# Altium schematic symbol library Schematic-FragasLab.SchLib: 425 symbols (part 3 of 7)
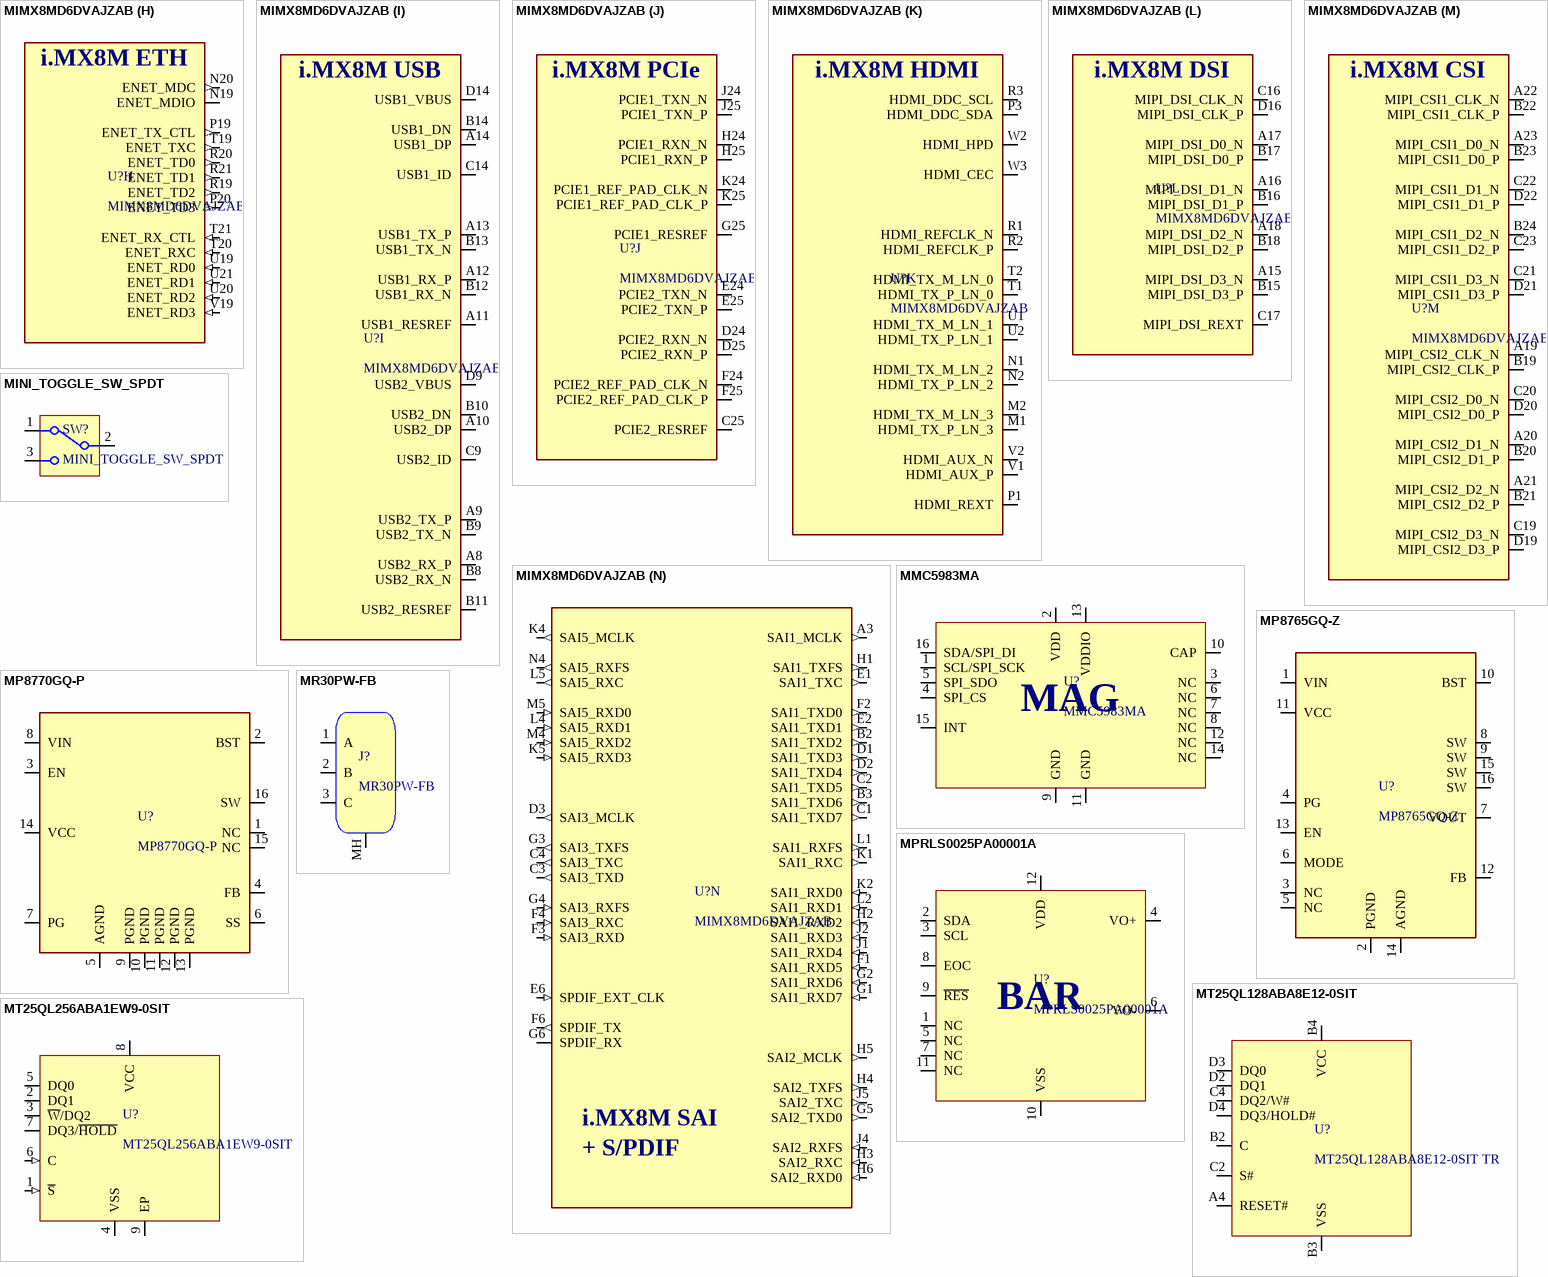
[diagram p44: symbols MIMX8MD6DVAJZAB to MT25QL256ABA1EW9-0SIT]

## MIMX8MD6DVAJZAB
designator U?
Microprocesor i.MX 8M Cortex-A53 1.5GHz Cortex-M4 FBGA-621; Manufacturer: NXP; Manufacturer Part Number: MIMX8MD6DVAJZAB; Distributor Link: https://eu.mouser.com/ProductDetail/NXP-Semiconductors/MIMX8MD6DVAJZAB?qs=byeeYqUIh0McEiqk4xmcPA%3D%3D
footprint BGA621-17X17-0MM65
part A pins: AA10 NVCC_DRAM_3, AA11 VDDA_DRAM, AA15 NVCC_DRAM_4, AB3 NVCC_DRAM_5, AB8 NVCC_DRAM_6, AB17 NVCC_DRAM_7, AB23 NVCC_DRAM_8, AC3 NVCC_DRAM_9, AC6 NVCC_DRAM_10, AC8 NVCC_DRAM_11, AC14 NVCC_DRAM_12, AC17 NVCC_DRAM_13, AC20 NVCC_DRAM_14, AC23 NVCC_DRAM_15, AD5 NVCC_DRAM_16, AD18 NVCC_DRAM_17, AD21 NVCC_DRAM_18, C11 USB2_VPTX, C12 USB1_VPTX, C18 MIPI_VDDHA_1, D8 NVCC_UART, D11 USB2_VP, D12 USB1_VP, D17 MIPI_VDDHA_2, D18 MIPI_VDDHA_3, E3 NVCC_SAI3, E11 USB2_DVDD, E12 USB1_DVDD, E15 MIPI_VDD_1, E17 MIPI_VDDA_1, E18 MIPI_VDDA_2, F5 NVCC_ECSPI, F11 USB2_VPH, F12 USB1_VPH, F15 MIPI_VDD_2, F17 MIPI_VDDA_3, F18 MIPI_VDDA_4, F19 MIPI_VDDPLL, F22 PCIE_VP_1, F23 PCIE_VPTX_1, G11 USB2_VDD33, G12 USB1_VDD33, G14 VDD_ARM_1, G15 VDD_ARM_2, G16 VDD_ARM_3, G22 PCIE_VP_2, G23 PCIE_VPTX_2, H7 NVCC_I2C, H14 VDD_ARM_4, H15 VDD_ARM_5, H16 VDD_ARM_6, H23 PCIE_VPH_1, J7 NVCC_SAI2, J9 VDD_GPU_1, J10 VDD_GPU_2, J15 VDD_ARM_7, J16 VDD_ARM_8, J23 PCIE_VPH_2, K3 NVCC_SAI1_1, K9 VDD_GPU_3, K10 VDD_GPU_4, K12 VDD_SOC_1, K14 VDDA_1P8_FPLL-ARM, K15 VDD_ARM_9, K16 VDD_ARM_10, L3 NVCC_SAI1_2, L9 VDD_GPU_5, L10 VDD_GPU_6, L12 VDD_SOC_2, L13 VDD_SOC_3, L15 VDD_ARM_11, L16 VDD_ARM_12, L18 NVCC_NAND_1, L23 NVCC_SD1_1, M3 NVCC_SAI5, M9 VDD_GPU_7, M10 VDD_GPU_8, M12 VDD_SOC_4, M13 VDD_SOC_5, M15 VDD_ARM_13, M16 VDD_ARM_14, M18 NVCC_NAND_2, M23 NVCC_SD1_2, N8 VDD_VPU_1, N9 VDD_VPU_2, N10 VDD_VPU_3, N11 VDDA_1P8_SPLL_VIDEO2, N13 VDD_SOC_6, N23 NVCC_SD2, P2 HDMI_AVDDIO, P9 VDD_VPU_4, P10 VDD_VPU_5, P12 VDD_SOC_7, P13 VDD_SOC_8, P15 VDD_SOC_9, P16 VDD_SOC_10, R5 NVCC_GPIO1_1, R6 NVCC_GPIO1_2, R8 VDD_SOC_11, R9 VDD_SOC_12, R10 VDD_SOC_13, R11 VDD_SOC_14, R12 VDD_SOC_15, R13 VDD_SOC_16, R14 VDD_SOC_17, R15 VDD_SOC_18, R16 VDD_SOC_19, R17 EFUSE_VQPS, R18 VDD_SNVS, T8 VDD_SOC_20, T15 VDDA_1P8_SPLL_DRAM, T16 VDDA_1P8_TSENSOR, T17 VDD_SOC_21, T18 NVCC_ENET, U3 HDMI_AVDDCORE_1, U4 HDMI_AVDDCORE_2, U10 VDD_DRAM_1, U11 VDD_DRAM_2, U12 VDD_DRAM_3, U13 VDD_DRAM_4, U14 VDD_DRAM_5, U17 VDDA_1P8_FPLL, U23 VDDA_1P8_LVDS, V3 HDMI_AVDDCLK, V9 VDD_DRAM_6, V10 VDD_DRAM_7, V11 VDD_DRAM_8, V12 VDD_DRAM_9, V13 VDD_DRAM_10, V14 VDD_DRAM_11, V15 VDD_DRAM_12, V18 VDDA_0P9, W4 NVCC_JTAG, W17 VDDA_1P8_SPLL, W18 NVCC_SNVS, W23 VDDA_1P8_XTAL_27M, W24 VDDA_1P8_XTAL_25M, Y6 VDD_DRAM_13, Y8 VDD_DRAM_14, Y10 VDD_DRAM_15, Y12 NVCC_DRAM_1, Y14 NVCC_DRAM_2, Y16 VDD_DRAM_16, Y18 VDD_DRAM_17, Y20 VDD_DRAM_18
part B pins: A2 VSS_1 (power), A24 VSS_2 (power), AA5 VSS_120 (power), AA16 VSS_121 (power), AA21 VSS_122 (power), AB2 VSS_123 (power), AB9 VSS_124 (power), AB11 VSS_125 (power), AB18 VSS_126 (power), AB24 VSS_127 (power), AC4 VSS_128 (power), AC19 VSS_129 (power), AC22 VSS_130 (power), AD1 VSS_131 (power), AD7 VSS_132 (power), AD9 VSS_133 (power), AD11 VSS_134 (power), AD13 VSS_135 (power), AD16 VSS_136 (power), AD25 VSS_137 (power), AE2 VSS_138 (power), AE5 VSS_139 (power), AE21 VSS_140 (power), AE24 VSS_141 (power), B1 VSS_3 (power), B25 VSS_4 (power), C8 VSS_5 (power), C10 VSS_6 (power), C13 VSS_7 (power), C15 VSS_8 (power), C24 VSS_9 (power), D10 VSS_10 (power), D13 VSS_11 (power), D15 VSS_12 (power), D23 VSS_13 (power), E4 VSS_14 (power), E10 VSS_15 (power), E13 VSS_16 (power), E14 VSS_17 (power), E16 VSS_18 (power), E19 VSS_19 (power), E20 VSS_20 (power), E21 VSS_21 (power), E22 VSS_22 (power), E23 VSS_23 (power), F10 VSS_24 (power), F13 VSS_25 (power), F14 VSS_26 (power), F16 VSS_27 (power), F20 VSS_28 (power), G9 VSS_29 (power), G10 VSS_30 (power), G13 VSS_31 (power), G17 VSS_32 (power), G18 VSS_33 (power), G24 VSS_34 (power), H8 VSS_35 (power), H9 VSS_36 (power), H10 VSS_37 (power), H11 VSS_38 (power), H12 VSS_39 (power), H13 VSS_40 (power), H17 VSS_41 (power), H18 VSS_42 (power), J3 VSS_43 (power), J8 VSS_44 (power), J11 VSS_45 (power), J12 VSS_46 (power), J13 VSS_47 (power), J14 VSS_48 (power), J17 VSS_49 (power), J18 VSS_50 (power), J19 VSS_51 (power), K8 VSS_52 (power), K11 VSS_53 (power), K13 VSSA_FPLL_ARM (power), K17 VSS_54 (power), K18 VSS_55 (power), K23 VSS_56 (power), L8 VSS_57 (power), L11 VSS_58 (power), L14 VSS_59 (power), L17 VSS_60 (power), M8 VSS_61 (power), M11 VSS_62 (power), M14 VSS_63 (power), M17 VSS_64 (power), N3 VSS_65 (power), N12 VSSA_SPLL_VIDEO2 (power), N14 VSS_66 (power), N15 VSS_67 (power), N16 VSS_68 (power), N17 VSS_69 (power), N18 VSS_70 (power), P6 VSS_71 (power), P8 VSS_72 (power), P11 VSS_73 (power), P14 VSS_74 (power), P17 VSS_75 (power), P18 VSS_76 (power), P23 VSS_77 (power), R7 VSS_78 (power), T3 VSS_79 (power), T4 VSS_80 (power), T9 VSS_81 (power), T10 VSS_82 (power), T11 VSS_83 (power), T12 VSS_84 (power), T13 VSS_85 (power), T14 VSSA_SPLL_DRAM (power), U8 VSS_86 (power), U9 VSS_87 (power), U15 VSS_88 (power), U16 VSSA_FPLL (power), U18 VSS_89 (power), V4 VSS_90 (power), V8 VSS_91 (power), V16 VSS_92 (power), V17 VSSA_SPLL (power), V23 VSSA_XTAL_25M (power), W1 VSS_93 (power), W7 VSS_94 (power), W8 VSS_95 (power), W9 VSS_96 (power), W10 VSS_97 (power), W11 VSS_98 (power), W12 VSS_99 (power), W13 VSS_100 (power), W14 VSS_101 (power), W15 VSS_102 (power), W16 VSS_103 (power), W22 VSSA_XTAL_27M (power), W25 VSS_104 (power), Y2 VSS_105 (power), Y3 VSS_106 (power), Y4 VSS_107 (power), Y5 VSS_108 (power), Y7 VSS_109 (power), Y9 VSS_110 (power), Y11 VSS_111 (power), Y13 VSS_112 (power), Y15 VSS_113 (power), Y17 VSS_114 (power), Y19 VSS_115 (power), Y21 VSS_116 (power), Y22 VSS_117 (power), Y23 VSS_118 (power), Y24 VSS_119 (power)
part C pins: AA1 DRAM_DQ22 (io), AA2 DRAM_DQ20 (io), AA3 DRAM_DQ26 (io), AA4 DRAM_DQ25 (io), AA6 DRAM_DQ27 (io), AA7 DRAM_DQ30 (io), AA8 DRAM_DQ28 (io), AA9 DRAM_DQ31 (io), AA12 DRAM_PAR (out), AA13 DRAM_ZN, AA14 DRAM_VREF, AA17 DRAM_DQ15 (io), AA18 DRAM_DQ12 (io), AA19 DRAM_DQ14 (io), AA20 DRAM_DQ11 (io), AA22 DRAM_DQ09 (io), AA23 DRAM_DQ10 (io), AA24 DRAM_DQ04 (io), AA25 DRAM_DQ06 (io), AB1 DRAM_DQ23 (io), AB4 DRAM_DQ24 (io), AB5 DRAM_DQS3_P (out), AB6 DRAM_DM3 (out), AB7 DRAM_DQ29 (io), AB10 DRAM_NRAS (out), AB12 DRAM_BA1 (out), AB13 DRAM_RESET_N (in), AB14 DRAM_MTEST, AB15 DRAM_A9 (out), AB16 DRAM_A4 (out), AB19 DRAM_DQ13 (io), AB20 DRAM_DM1 (out), AB21 DRAM_DQS1_P (out), AB22 DRAM_DQ08 (io), AB25 DRAM_DQ07 (io), AC1 DRAM_DQS2_N (out), AC2 DRAM_DQS2_P (out), AC5 DRAM_DQS3_N (out), AC7 DRAM_CA2B_A13 (out), AC9 DRAM_CS0B (out), AC10 DRAM_NWE (out), AC11 DRAM_NCS1 (out), AC12 DRAM_ODT0 (out), AC13 DRAM_MTEST1, AC15 DRAM_A3 (out), AC16 DRAM_CKE0A_CKE0 (out), AC18 DRAM_CS1A (out), AC21 DRAM_DQS1_N (out), AC24 DRAM_DQS0_P (out), AC25 DRAM_DQS0_N (out), AD2 DRAM_DQ17 (io), AD3 DRAM_DM2 (out), AD4 DRAM_DQ19 (io), AD6 DRAM_CA5B_A0 (out), AD8 DRAM_CS1B (out), AD10 DRAM_CKE0B_CK (out), AD12 DRAM_CKtB_A2 (out), AD14 DRAM_CKtA_BA2 (out), AD15 DRAM_NCKA (out), AD17 DRAM_CA0A_A12 (out), AD19 DRAM_CA4A_A6 (out), AD20 DRAM_CA2A_A7 (out), AD22 DRAM_DQ03 (io), AD23 DRAM_DM0 (out), AD24 DRAM_DQ01 (io), AE3 DRAM_DQ16 (io), AE4 DRAM_DQ18 (io), AE6 DRAM_CA4B_A10 (out), AE7 DRAM_CA3B_BA0 (out), AE8 DRAM_CA0B (out), AE9 DRAM_CA1B_NCAS (out), AE10 DRAM_CKE1B_NCK (out), AE11 DRAM_ODT1 (out), AE12 DRAM_CKcB_A1 (out), AE13 DRAM_A15 (out), AE14 DRAM_CK_c_A_A14 (out), AE15 DRAM_CKA (out), AE16 DRAM_CA1A_A11 (out), AE17 DRAM_CKE1A_CK1 (out), AE18 DRAM_CS0A_NCS0 (out), AE19 DRAM_CA5A_A5 (out), AE20 DRAM_CA3A_A8 (out), AE22 DRAM_DQ02 (io), AE23 DRAM_DQ00 (io), Y1 DRAM_DQ21 (io), Y25 DRAM_DQ05 (io)
part D pins: R23 CLK1_P (in), T5 JTAG_TCK, T22 CLK2_P (out), T23 CLK1_N (in), U5 JTAG_TDO, U6 JTAG_TRST_B, U7 JTAG_MOD, U22 CLK2_N (out), U24 XTALO_25M (out), U25 XTALI_25M (in), V5 JTAG_TMS, V6 BOOT_MODE1 (in), V7 TEST_MODE (in), V20 PMIC_ON_REQ (out), V21 PMIC_STBY_REQ (out), V22 RTC (in), V24 XTALO_27M (out), V25 XTALI_27M (in), W5 JTAG_TDI, W6 BOOT_MODE0 (in), W19 RTC_RESET_B (in), W20 POR_B (in), W21 ONOFF (in)
part E pins: A4 ECSPI1_MOSI (out), A5 ECSPI2_SS0 (out), A6 UART3_RXD (in), A7 UART1_TXD (out), B4 ECSPI1_MISO (in), B5 ECSPI2_MISO (in), B6 UART2_RXD (in), B7 UART3_TXD (out), C5 ECSPI2_SCLK (out), C6 UART4_RXD (in), C7 UART1_RXD (in), D4 ECSPI1_SS0 (out), D5 ECSPI1_SCLK (out), D6 UART2_TXD (out), D7 UART4_TXD (out), E5 ECSPI2_MOSI (out), E7 I2C1_SCL (io), E8 I2C1_SDA (io), E9 I2C3_SDA (io), F7 I2C2_SDA (io), F8 I2C4_SCL (io), F9 I2C4_SDA (io), G7 I2C2_SCL (io), G8 I2C3_SCL (io), J6 GPIO1_IO15 (io), K6 GPIO1_IO13 (io), K7 GPIO1_IO14 (io), L6 GPIO1_IO11 (io), L7 GPIO1_IO12 (io), M6 GPIO1_IO09 (io), M7 GPIO1_IO10 (io), N5 GPIO1_IO06 (io), N6 GPIO1_IO07 (io), N7 GPIO1_IO08 (io), P4 GPIO1_IO03 (io), P5 GPIO1_IO04 (io), P7 GPIO1_IO05 (io), R4 GPIO1_IO02 (io), T6 GPIO1_IO00 (io), T7 GPIO1_IO01 (io)
part F pins: L21 SD2_CD_B (out), L22 SD2_CLK (out), L24 SD1_CMD (out), L25 SD1_CLK (out), M21 SD2_WP (out), M22 SD2_CMD (out), M24 SD1_DATA1 (io), M25 SD1_DATA0 (io), N21 SD2_DATA1 (io), N22 SD2_DATA0 (io), N24 SD1_DATA4 (io), N25 SD1_DATA2 (io), P21 SD2_DATA3 (io), P22 SD2_DATA2 (io), P24 SD1_DATA5 (io), P25 SD1_DATA3 (io), R22 SD2_RESET_B (out), R24 SD1_RESET_B (out), R25 SD1_DATA6 (io), T24 SD1_STROBE (out), T25 SD1_DATA7 (io)
part G pins: F21 NAND_CE2_B (out), G19 NAND_ALE (out), G20 NAND_DATA00 (io), G21 NAND_CE1_B (out), H19 NAND_CE0_B (out), H20 NAND_CE3_B (out), H21 NAND_CLE (out), H22 NAND_DATA02 (io), J20 NAND_DATA01 (io), J21 NAND_DATA03 (io), J22 NAND_DATA05 (io), K19 NAND_RE_B (in), K20 NAND_READY_B (in), K21 NAND_WP_B (out), K22 NAND_WE_B (out), L19 NAND_DATA06 (io), L20 NAND_DATA04 (io), M19 NAND_DATA07 (io), M20 NAND_DQS (out)
part H pins: N19 ENET_MDIO (io), N20 ENET_MDC (out), P19 ENET_TX_CTL (out), P20 ENET_TD3 (out), R19 ENET_TD2 (out), R20 ENET_TD0 (out), R21 ENET_TD1 (out), T19 ENET_TXC (out), T20 ENET_RXC (in), T21 ENET_RX_CTL (in), U19 ENET_RD0 (in), U20 ENET_RD2 (in), U21 ENET_RD1 (in), V19 ENET_RD3 (in)
part I pins: A8 USB2_RX_P, A9 USB2_TX_P, A10 USB2_DP, A11 USB1_RESREF, A12 USB1_RX_P, A13 USB1_TX_P, A14 USB1_DP, B8 USB2_RX_N, B9 USB2_TX_N, B10 USB2_DN, B11 USB2_RESREF, B12 USB1_RX_N, B13 USB1_TX_N, B14 USB1_DN, C9 USB2_ID, C14 USB1_ID, D9 USB2_VBUS, D14 USB1_VBUS
part J pins: C25 PCIE2_RESREF, D24 PCIE2_RXN_N, D25 PCIE2_RXN_P, E24 PCIE2_TXN_N, E25 PCIE2_TXN_P, F24 PCIE2_REF_PAD_CLK_N, F25 PCIE2_REF_PAD_CLK_P, G25 PCIE1_RESREF, H24 PCIE1_RXN_N, H25 PCIE1_RXN_P, J24 PCIE1_TXN_N, J25 PCIE1_TXN_P, K24 PCIE1_REF_PAD_CLK_N, K25 PCIE1_REF_PAD_CLK_P
part K pins: M1 HDMI_TX_P_LN_3, M2 HDMI_TX_M_LN_3, N1 HDMI_TX_M_LN_2, N2 HDMI_TX_P_LN_2, P1 HDMI_REXT, P3 HDMI_DDC_SDA, R1 HDMI_REFCLK_N, R2 HDMI_REFCLK_P, R3 HDMI_DDC_SCL, T1 HDMI_TX_P_LN_0, T2 HDMI_TX_M_LN_0, U1 HDMI_TX_M_LN_1, U2 HDMI_TX_P_LN_1, V1 HDMI_AUX_P, V2 HDMI_AUX_N, W2 HDMI_HPD, W3 HDMI_CEC
part L pins: A15 MIPI_DSI_D3_N, A16 MIPI_DSI_D1_N, A17 MIPI_DSI_D0_N, A18 MIPI_DSI_D2_N, B15 MIPI_DSI_D3_P, B16 MIPI_DSI_D1_P, B17 MIPI_DSI_D0_P, B18 MIPI_DSI_D2_P, C16 MIPI_DSI_CLK_N, C17 MIPI_DSI_REXT, D16 MIPI_DSI_CLK_P
part M pins: A19 MIPI_CSI2_CLK_N, A20 MIPI_CSI2_D1_N, A21 MIPI_CSI2_D2_N, A22 MIPI_CSI1_CLK_N, A23 MIPI_CSI1_D0_N, B19 MIPI_CSI2_CLK_P, B20 MIPI_CSI2_D1_P, B21 MIPI_CSI2_D2_P, B22 MIPI_CSI1_CLK_P, B23 MIPI_CSI1_D0_P, B24 MIPI_CSI1_D2_N, C19 MIPI_CSI2_D3_N, C20 MIPI_CSI2_D0_N, C21 MIPI_CSI1_D3_N, C22 MIPI_CSI1_D1_N, C23 MIPI_CSI1_D2_P, D19 MIPI_CSI2_D3_P, D20 MIPI_CSI2_D0_P, D21 MIPI_CSI1_D3_P, D22 MIPI_CSI1_D1_P
part N pins: A3 SAI1_MCLK (out), B2 SAI1_TXD2 (out), B3 SAI1_TXD6 (out), C1 SAI1_TXD7 (out), C2 SAI1_TXD5 (out), C3 SAI3_TXD (out), C4 SAI3_TXC (out), D1 SAI1_TXD3 (out), D2 SAI1_TXD4 (out), D3 SAI3_MCLK (out), E1 SAI1_TXC (out), E2 SAI1_TXD1 (out), E6 SPDIF_EXT_CLK (in), F1 SAI1_RXD5 (in), F2 SAI1_TXD0 (out), F3 SAI3_RXD (in), F4 SAI3_RXC (in), F6 SPDIF_TX (out), G1 SAI1_RXD7 (in), G2 SAI1_RXD6 (in), G3 SAI3_TXFS (out), G4 SAI3_RXFS (in), G5 SAI2_TXD0 (out), G6 SPDIF_RX, H1 SAI1_TXFS (out), H2 SAI1_RXD2 (in), H3 SAI2_RXC (in), H4 SAI2_TXFS (out), H5 SAI2_MCLK (out), H6 SAI2_RXD0 (in), J1 SAI1_RXD4 (in), J2 SAI1_RXD3 (in), J4 SAI2_RXFS (in), J5 SAI2_TXC (out), K1 SAI1_RXC (out), K2 SAI1_RXD0 (in), K4 SAI5_MCLK (out), K5 SAI5_RXD3 (in), L1 SAI1_RXFS (out), L2 SAI1_RXD1 (in), L4 SAI5_RXD1 (in), L5 SAI5_RXC (out), M4 SAI5_RXD2 (in), M5 SAI5_RXD0 (in), N4 SAI5_RXFS (out)
part A text: i.MX8M PWR
part B text: i.MX8M GND
part C text: i.MX8M DRAM
part D text: i.MX8M CONFIG
part E text: i.MX8M GPIO
part F text: i.MX8M SD
part G text: i.MX8M NAND
part H text: i.MX8M ETH
part I text: i.MX8M USB
part J text: i.MX8M PCIe
part K text: i.MX8M HDMI
part L text: i.MX8M DSI
part M text: i.MX8M CSI
part N text: i.MX8M SAI; + S/PDIF

## MINI_TOGGLE_SW_SPDT
designator SW?
Mini Toggle Switch SPDT THT
footprint MINI_TOGGLE_SW_SPDT
pins: 1, 2 COM, 3

## MMC5983MA
designator U?
±8 Gauss, High Performance 3-axis Magnetic Sensor I2C/SPI; Manufacturer: MEMSIC; Manufacturer Part Number: MMC5983MA
footprint MMC5983MA-LGA
pins: 1 SCL/SPI_SCK, 2 VDD, 3 NC, 4 SPI_CS, 5 SPI_SDO, 6 NC, 7 NC, 8 NC, 9 GND, 10 CAP, 11 GND, 12 NC, 13 VDDIO, 14 NC, 15 INT, 16 SDA/SPI_DI
text: MAG

## MP8765GQ-Z
designator U?
24V, 6A 500kHz High Efficiency Synchronous Step-down Converter; Manufacturer: MPS; Manufacturer Part Number: MIC24054YJL-TR; Distributor Link: https://www.mouser.de/ProductDetail/Monolithic-Power-Systems-MPS/MP8765GQ-Z?qs=sGAEpiMZZMsMIqGZiACxIbB7TMDfpY7yaU%252B6KH2iNJKGRJEoJj7Lfg%3D%3D
footprint QFN16-3x3-MP8765GQ
pins: 1 VIN, 2 PGND, 3 NC, 4 PG, 5 NC, 6 MODE, 7 VOUT, 8 SW, 9 SW, 10 BST, 11 VCC, 12 FB, 13 EN, 14 AGND, 15 SW, 16 SW

## MP8770GQ-P
designator U?
17V, 8A, 700kHz, High-Efficiency, Synchronous, Step-Down Converter; Manufacturer: MPS; Manufacturer Part Number: MP8770GQ-P; Distributor Link: https://www.mouser.de/ProductDetail/Monolithic-Power-Systems-MPS/MP8770GQ-P?qs=sGAEpiMZZMsMIqGZiACxIY79W%2FZ1FL4F8MuKM7Lvm3Hqk43cfQYG9A%3D%3D
footprint MP8770GQ-P
pins: 1 NC, 2 BST, 3 EN, 4 FB, 5 AGND, 6 SS, 7 PG, 8 VIN, 9 PGND, 10 PGND, 11 PGND, 12 PGND, 13 PGND, 14 VCC, 15 NC, 16 SW

## MPRLS0025PA00001A
designator U?
Board Mount Absolute Pressure Sensor Honeywell I2C 0 to 25 psi; Manufacturer: Honeywell; Manufacturer Part Number: MPRLS0025PA00001A
footprint MPR-SMD-12
pins: 1 NC, 2 SDA, 3 SCL, 4 VO+, 5 NC, 6 VO-, 7 NC, 8 EOC, 9 ~{RES}, 10 VSS, 11 NC, 12 VDD
text: BAR

## MR30PW-FB
designator J?
MR30 Connector Female 3 Position THT PCB-Mount 15A; Manufacturer: AMASS; Manufacturer Part Number: MR30PW-FB
footprint MR30PW-FB
pins: 1 A, 2 B, 3 C, MH

## MT25QL128ABA8E12-0SIT
designator U?, comment MT25QL128ABA8E12-0SIT TR
NOR Flash QSPI 128 Mbit T-PBGA-24; Manufacturer: Micron Technology; Manufacturer Part Number: MT25QL128ABA8E12-0SIT TR
footprint T-PBGA-5x5-6x8-24
pins: A4 RESET#, B2 C, B3 VSS, B4 VCC, C2 S#, C4 DQ2/W#, D2 DQ1, D3 DQ0, D4 DQ3/HOLD#

## MT25QL256ABA1EW9-0SIT
designator U?
3V 256-BIT SERIAL FLASH MEMORY QUAD SPI WSON-8; Manufacturer: Micron; Manufacturer Part Number: MT25QL256ABA1EW9-0SIT; Distributor Link: https://www.lcsc.com/product-detail/NOR-FLASH_Micron-Tech-MT25QL256ABA1EW9-0SIT-TR_C2061007.html; LCSC: C2061007
footprint WSON-8-8X6 (8-Pad WSON 8x6-mm (Package Code E) (Winbond))
pins: 1 ~{S} (in), 2 DQ1 (io), 3 ~{W}/DQ2 (io), 4 VSS (power), 5 DQ0 (io), 6 C (in), 7 DQ3/~{HOLD} (io), 8 VCC (power), 9 EP (power)

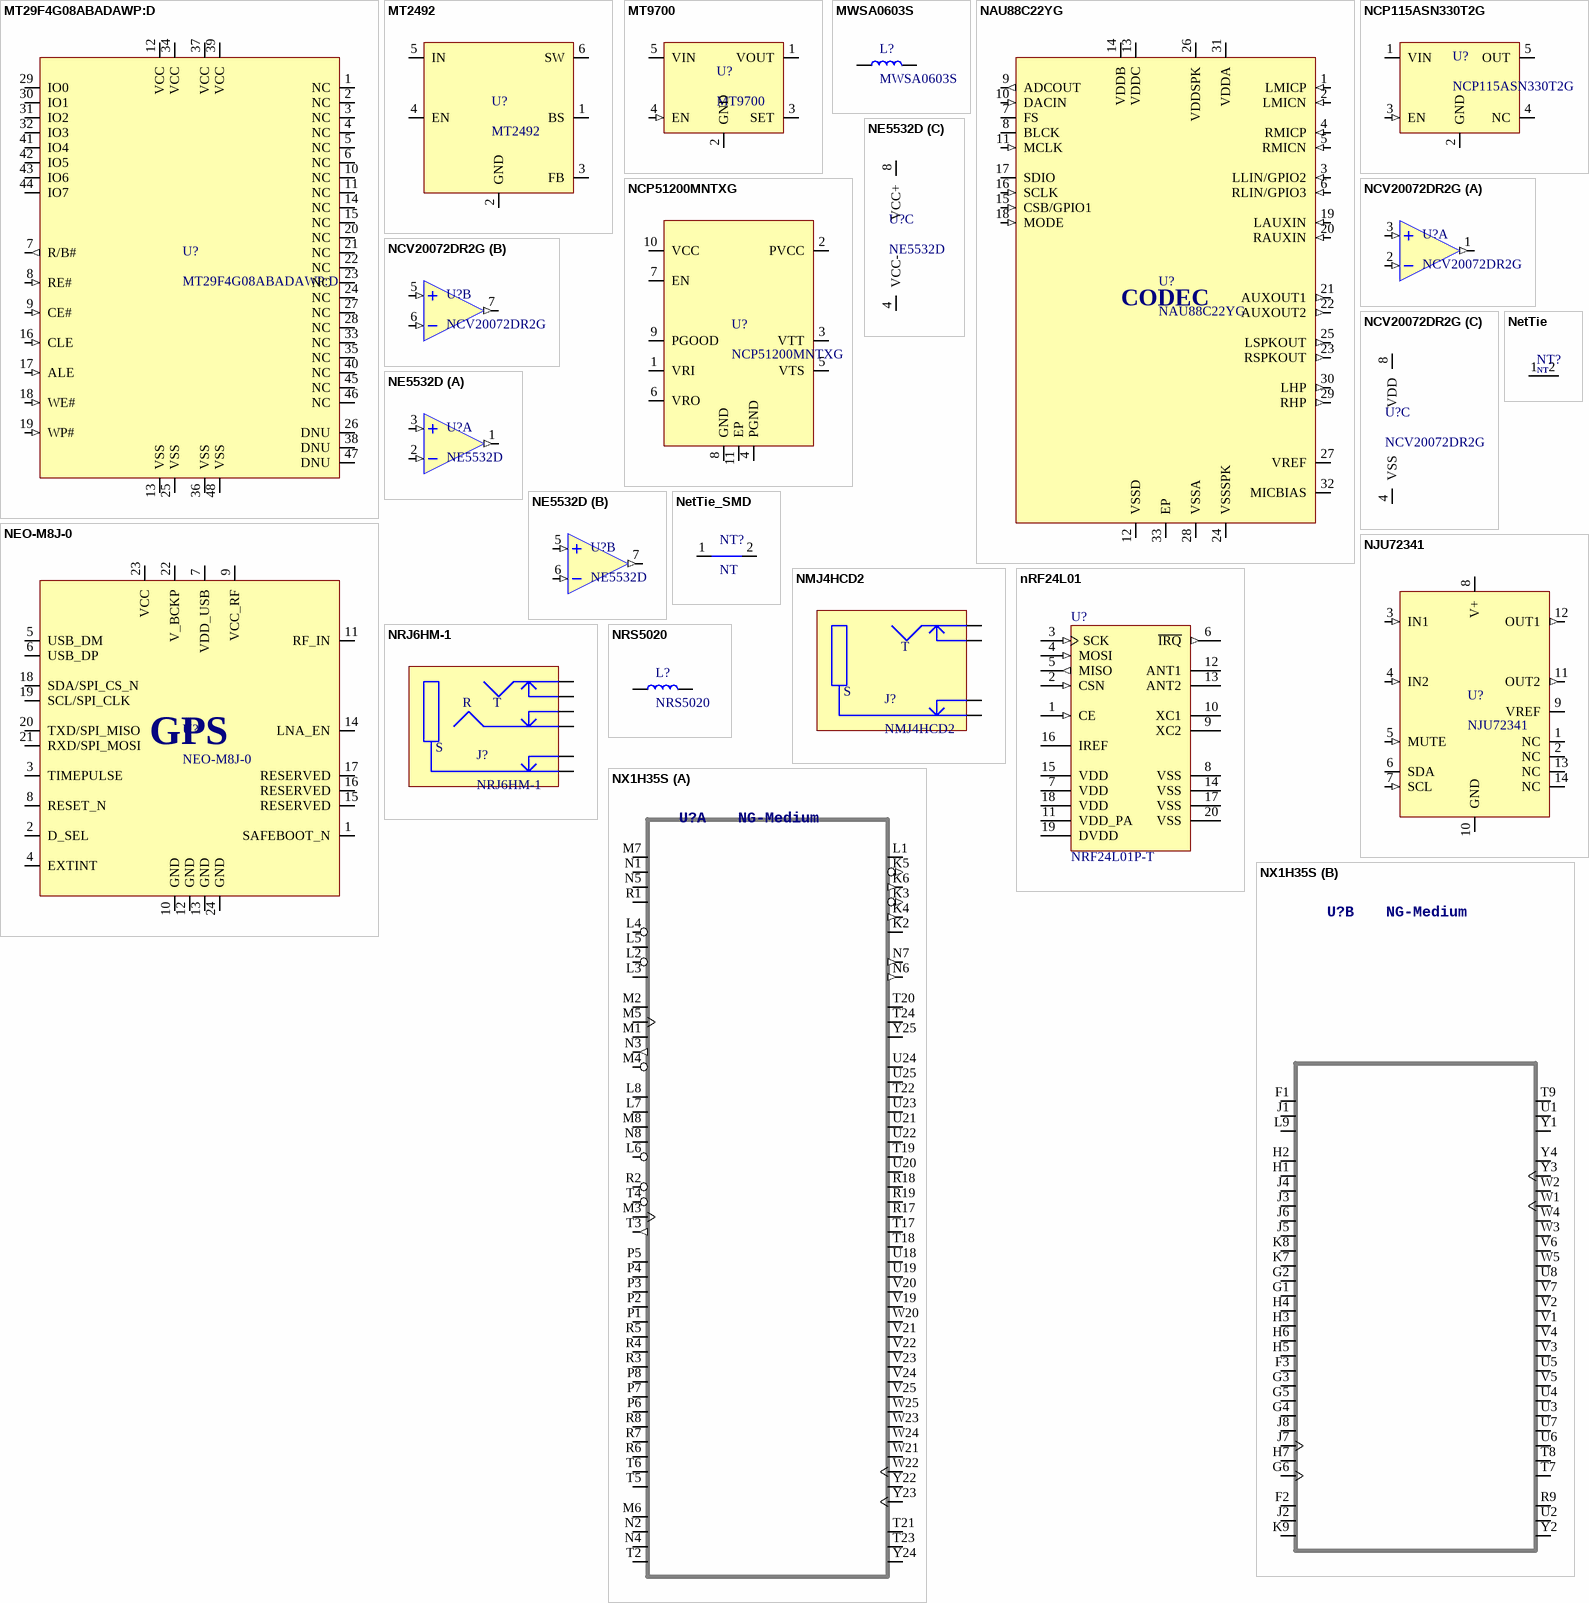
[diagram p15: symbols MT29F4G08ABADAWP:D to NX1H35S]

## MT29F4G08ABADAWP:D
designator U?
NAND FLASH Memory 4Gb x8 TSOP-48; Manufacturer: Micron; Manufacturer Part Number: MT29F4G08ABADAWP:D; LCSC: C78135
footprint TSOP-48
pins: 1 NC, 2 NC, 3 NC, 4 NC, 5 NC, 6 NC, 7 R/B# (out), 8 RE# (in), 9 CE# (in), 10 NC, 11 NC, 12 VCC (power), 13 VSS (power), 14 NC, 15 NC, 16 CLE (in), 17 ALE (in), 18 WE# (in), 19 WP# (in), 20 NC, 21 NC, 22 NC, 23 NC, 24 NC, 25 VSS (power), 26 DNU, 27 NC, 28 NC, 29 IO0 (io), 30 IO1 (io), 31 IO2 (io), 32 IO3 (io), 33 NC, 34 VCC (power), 35 NC, 36 VSS (power), 37 VCC (power), 38 DNU, 39 VCC (power), 40 NC, 41 IO4 (io), 42 IO5 (io), 43 IO6 (io), 44 IO7 (io), 45 NC, 46 NC, 47 DNU, 48 VSS (power)

## MT2492
designator U?
600KHz, 16V，2A Synchronous / Step-Down Converter; Manufacturer: Aerosemi; Manufacturer Part Number: MT2492
footprint SOT-23-6
pins: 1 BS, 2 GND, 3 FB, 4 EN, 5 IN, 6 SW

## MT9700
designator U?
Adjustable Current-Limited Power Distribution Switch; Manufacturer: Aerosemi; Manufacturer Part Number: MT9700
footprint SOT-23-5 (SOT23, 5-Leads, Body 2,90x2,80mm, Pitch 0,95mm, IPC Medium Density)
pins: 1 VOUT (power), 2 GND (power), 3 SET, 4 EN (in), 5 VIN (power)

## MWSA0603S
designator L?
Power Inductor SMD Sunlord MWSA0603S; Manufacturer Part Number: MWSA0603S-; Manufacturer: Sunlord
footprint MWSA0603S
pins: 1, 2

## NAU88C22YG
designator U?
24-bit Stereo Audio Codec with Speaker Driver; Manufacturer: Nuvoton Tech; Manufacturer Part Number: NAU88C22YG
footprint QFN32-5x5-0.5
pins: 1 LMICP (in), 2 LMICN (in), 3 LLIN/GPIO2 (in), 4 RMICP (in), 5 RMICN (in), 6 RLIN/GPIO3 (in), 7 FS (io), 8 BLCK (io), 9 ADCOUT (out), 10 DACIN (in), 11 MCLK (in), 12 VSSD (power), 13 VDDC (power), 14 VDDB (power), 15 CSB/GPIO1 (in), 16 SCLK (in), 17 SDIO (io), 18 MODE (in), 19 LAUXIN (in), 20 RAUXIN (in), 21 AUXOUT1 (out), 22 AUXOUT2 (out), 23 RSPKOUT (out), 24 VSSSPK (power), 25 LSPKOUT (out), 26 VDDSPK (power), 27 VREF (power), 28 VSSA (power), 29 RHP (out), 30 LHP (out), 31 VDDA (power), 32 MICBIAS (power), 33 EP (power)
text: CODEC

## NCP115ASN330T2G
designator U?
LDO Regulator - High PSRR 300 mA 3.3V TSOP-5; Manufacturer: ON Semiconductor; Manufacturer Part Number: NCP115ASN330T2G
footprint TSOT25 (SOT23, 5-Leads, Body 2.90x2.80mm, Pitch 0.95mm, IPC Medium Density)
pins: 1 VIN (power), 2 GND (power), 3 EN (in), 4 NC, 5 OUT (power)

## NCP51200MNTXG
designator U?
Linear Voltage Regulator / 3A for DDR1, DDR2, DDR3, / LPDDR3, DDR4 VTT / Termination; Manufacturer: onsemi; Manufacturer Part Number: NCP51200MNTXG
footprint DFNW10-3x3-0_5P
pins: 1 VRI, 2 PVCC, 3 VTT, 4 PGND, 5 VTS, 6 VRO, 7 EN, 8 GND, 9 PGOOD, 10 VCC, 11 EP

## NCV20072DR2G
designator U?
Dual Rail-to-Rail Output Operational Amplifiers; Manufacturer: onsemi; Manufacturer Part Number: NCV20072DR2G; Distributor Link: https://www.lcsc.com/product-detail/Operational-Amplifier_onsemi-NCV20072DR2G_C411206.html; LCSC: C411206
footprint SOIC-8 (SOIC, 8-Leads, Body 4.91x3.90mm, Pitch 1.27mm, IPC Medium Density)
part A pins: 1 1OUT (out), 2 1IN- (in), 3 1IN+ (in)
part B pins: 5 2IN+ (in), 6 2IN- (in), 7 2OUT (out)
part C pins: 4 VSS (power), 8 VDD (power)

## NE5532D
designator U?
Dual Low-Noise Operational Amplifiers; Manufacturer: Texas Instruments; Manufacturer Part Number: NE5532D
footprint SOIC-8 (SOIC, 8-Leads, Body 4.91x3.90mm, Pitch 1.27mm, IPC Medium Density)
part A pins: 1 1OUT (out), 2 1IN- (in), 3 1IN+ (in)
part B pins: 5 2IN+ (in), 6 2IN- (in), 7 2OUT (out)
part C pins: 4 VCC-, 8 VCC+

## NEO-M8J-0
designator U?
u-blox M8 concurrent GNSS module; Manufacturer: u-blox; Manufacturer Part Number: NEO-M8J-0
footprint NEO-M8
pins: 1 SAFEBOOT_N, 2 D_SEL, 3 TIMEPULSE, 4 EXTINT, 5 USB_DM, 6 USB_DP, 7 VDD_USB, 8 RESET_N, 9 VCC_RF, 10 GND, 11 RF_IN, 12 GND, 13 GND, 14 LNA_EN, 15 RESERVED, 16 RESERVED, 17 RESERVED, 18 SDA/SPI_CS_N, 19 SCL/SPI_CLK, 20 TXD/SPI_MISO, 21 RXD/SPI_MOSI, 22 V_BCKP, 23 VCC, 24 GND
text: GPS

## NetTie
designator NT?, comment NT  (value not drawn)  (net tie, no BOM)
Net Tie
footprint NETTIE
pins: 1, 2

## NetTie_SMD
designator NT?, comment NT  (net tie, no BOM)
Net Tie SMD
footprint NETTIE_SMD
pins: 1, 2

## NJU72341
designator U?
2-Channel Audio Volume Control I2C; Manufacturer: Nisshinbo; Manufacturer Part Number: NJU72341V-TE2
footprint SSOP-14
pins: 1 NC, 2 NC, 3 IN1 (in), 4 IN2 (in), 5 MUTE (in), 6 SDA (io), 7 SCL (in), 8 V+ (power), 9 VREF (power), 10 GND (power), 11 OUT2 (out), 12 OUT1 (out), 13 NC, 14 NC

## NMJ4HCD2
designator J?
1/4" Mono Jack, TS Switched; Manufacturer: Neutrik; Manufacturer Part Number: NMJ4HCD2
footprint NMJ4HCD2
pins: S, SN, T, TN

## nRF24L01
designator U?, comment NRF24L01P-T
Single Chip Transceiver, 2.4 GHz, 60 mW, 1.9 to 3.6 V, -40 to 85 degC, 20-Pin QFN, RoHS, Tray; Manufacturer: Nordic Semiconductor; Data Rate (Max): 2Mbps; Current - Transmitting: 7mA~11.3mA; Power - Output: 0dBm; Other Names: 1490-1019; Online Catalog: nRF24L01+; Current - Receiving: 12.6mA~13.5mA; For Use With: 1490-1002-ND-KITEVALUATIONNRF24L01P1568-1295-ND-SPARKFUNTRANSCEIVERBREAKOUT-1568-1296-ND-SPARKFUNTRANSCEIVERBREAKOUT-1471-1410-ND-DEVBOARDNRFSCLICKNRF24L01P-MODULE-PCB-ND-KITEVALNRF24L01+PCBANTENNANRF24L01P-MODULE-SMA-ND-KITEVALNRF24L01+SMACONNNRF24L01P-UPGRADE-ND-UPGRADE2PCB/1SMANRF24L01103990038-ND-DEVDUINOSENSORNODEV1.3103990053-ND-DEVDUINOSENSORNODEV2(ATMEGA103990074-ND-DEVDUINOSENSORNODE106990026-ND-ENERGYMONITORSHIELDV2113990088-ND-WIRELESSGATESHIELD113990095-ND-DEVDUINOSENSORNODEV3(ATMEGA106030001-ND-ENERGYMONITORSHIELD1597-1361-ND-DEVDUINOSENSORNODEV2.2(ATMEG105990030-ND-RGBWSTRIPWIRELESSSHIELDV1.0; Frequency: 2.4GHz; Design Resources: DevelopmentToolSelector; RF Family/Standard: GeneralISM>1GHZ; Serial Interfaces: SPI; Sensitivity: -94dBm; Voltage - Supply: 1.9V~3.6V; Modulation: GFSK; GPIO: -; Package Reference: QFN20; Memory Size: -; Category: RF/IFandRFID; Type: TxRxOnly; Standard Package: 490; Package / Case: 20-VFQFNExposedPad; Packaging: Tray; Series: -; Package Description: 20-Pin Quad Flat No-lead Package, Body 4 x 4 mm, Pitch 0.5 mm; Datasheet Version: Rev. 1.0, 09/2008; Protocol: -; Manufacturer URL: http://www.nordicsemi.com/eng/Products/; Operating Temperature: -40°C~85°C; Family: RFTransceiverICs; Datasheet URL: http://www.nordicsemi.com/eng/content/download/2726/34069/file/nRF24L01P_Product_Specification_1_0.pdf; Mounting Technology: SurfaceMount
footprint NRSC-QFN-20_L (QFN, 20-Leads, Body 4x4mm, Pitch 0.5mm, Thermal Pad 2.6x2.6mm, IPC High Density)
footprint NRSC-QFN-20_M (QFN, 20-Leads, Body 4x4mm, Pitch 0.5mm, Thermal Pad 2.6x2.6mm, IPC Low Density)
footprint NRSC-QFN-20_N (QFN, 20-Leads, Body 4x4mm, Pitch 0.5mm, Thermal Pad 2.6x2.6mm, IPC Medium Density)
pins: 1 CE (in) "Chip Enable Activates RX or TX mode", 2 CSN (in) "SPI Chip Select", 3 SCK (in) "SPI Clock", 4 MOSI (in) "SPI Slave Data Input", 5 MISO (out) "SPI Slave Data Output, with tri-state option", 6 ~{IRQ} (out) "Maskable interrupt pin. Active low", 7 VDD (power) "Power Supply (+1.9V - +3.6V DC)", 8 VSS (power) "Ground (0V)", 9 XC2 "Crystal Pin 2", 10 XC1 "Crystal Pin 1", 11 VDD_PA (power) "Power Supply Output (+1.8V) for the internal nRF24L01+ Power Amplifier. Must be connected to ANT1 and ANT2 as shown in Figure 32.", 12 ANT1 "Antenna interface 1", 13 ANT2 "Antenna interface 2", 14 VSS (power) "Ground (0V)", 15 VDD (power) "Power Supply (+1.9V - +3.6V DC)", 16 IREF "Reference current. Connect a 22 kohm resistor to ground. See Figure 32.", 17 VSS (power) "Ground (0V)", 18 VDD (power) "Power Supply (+1.9V - +3.6V DC)", 19 DVDD (power) "Internal digital supply output for de-coupling purposes. See Figure 32.", 20 VSS (power) "Ground (0V)"

## NRJ6HM-1
designator J?
1/4" Stereo Jack, TRS Switched; Manufacturer: Neutrik; Manufacturer Part Number: NRJ6HM-1
footprint NRJ6HM-1
pins: R, RN, S, SN, T, TN

## NRS5020
designator L?
NRS5020 SMD Power Inductor Taiyo Yuden; Manufacturer: Taiyo Yuden; Manufacturer Part Number: NRS5020
footprint NRS5020
pins: 1, 2

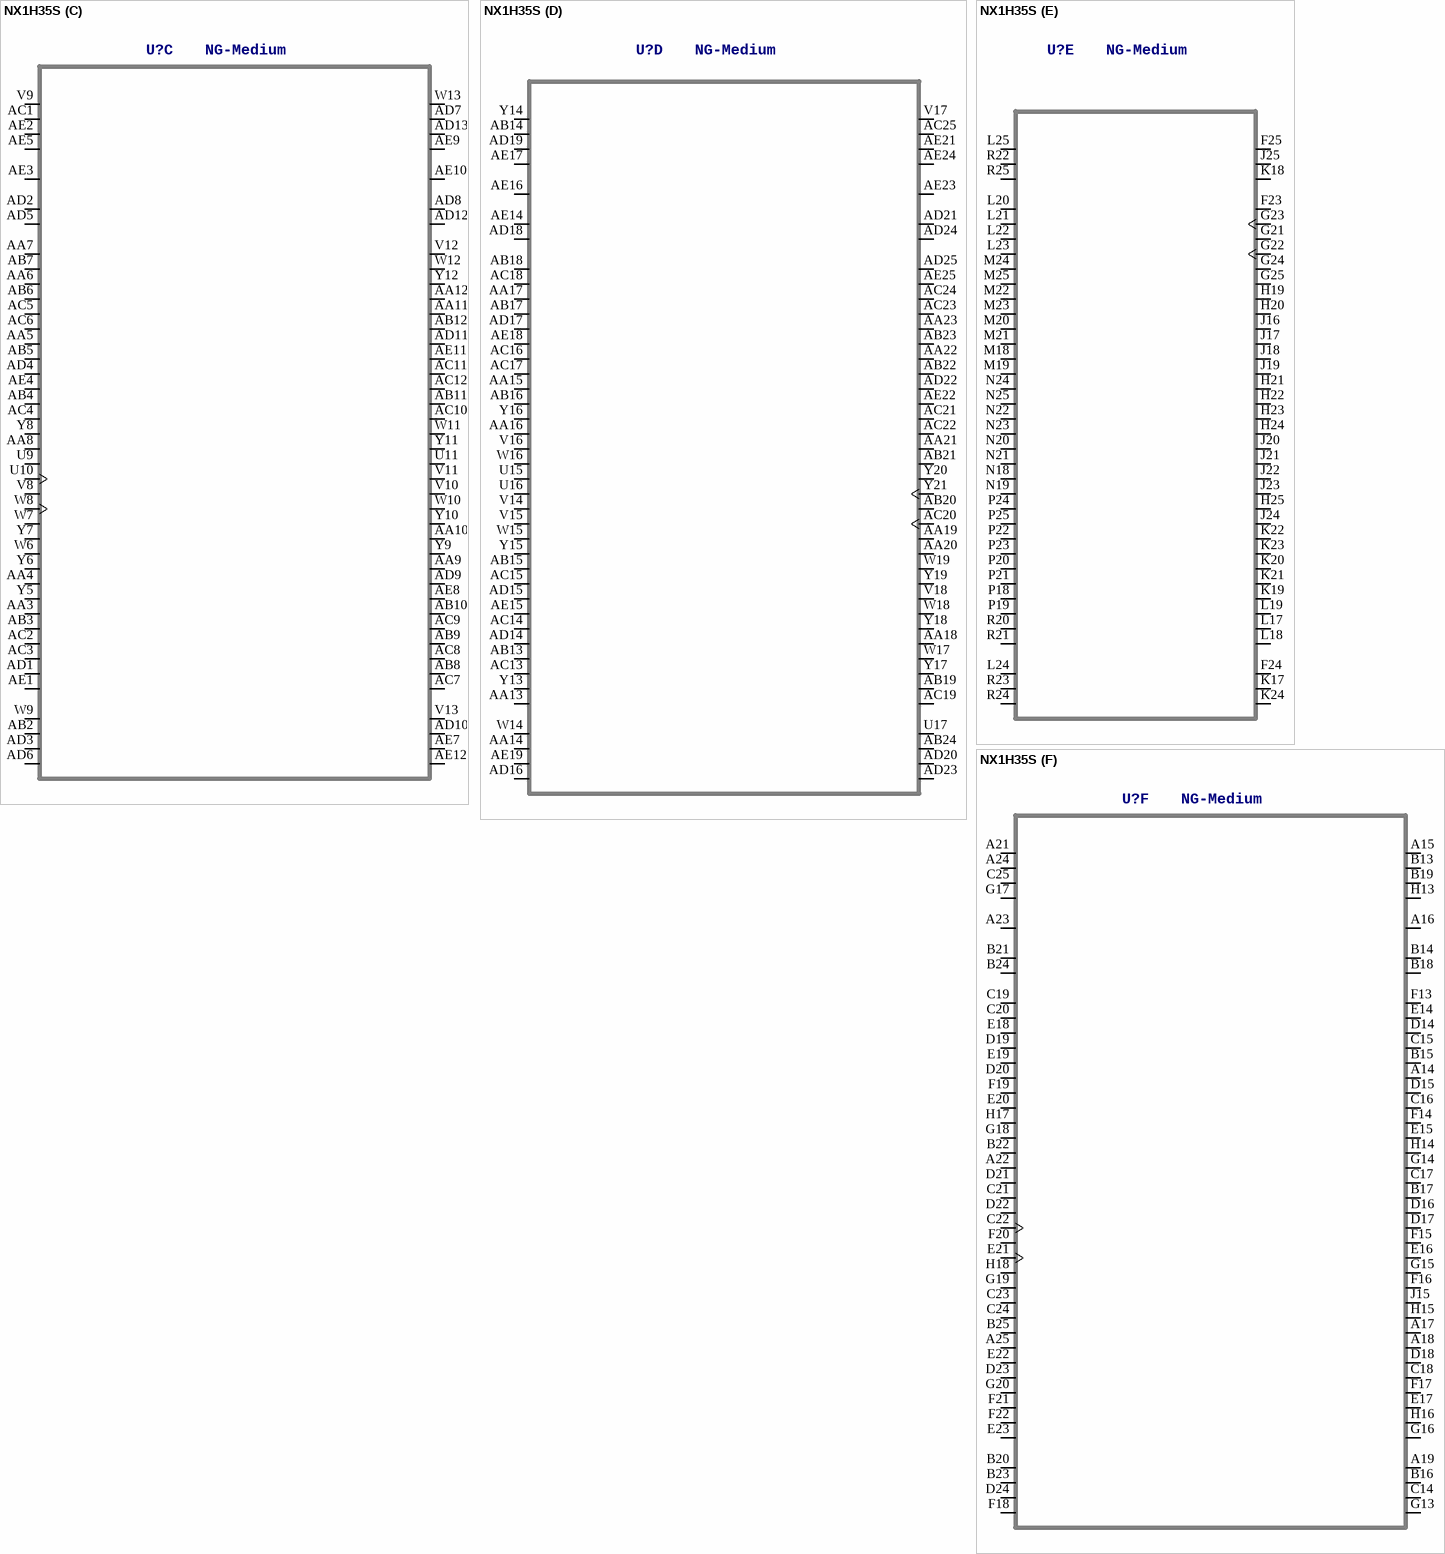
[diagram p16: symbol NX1H35S]

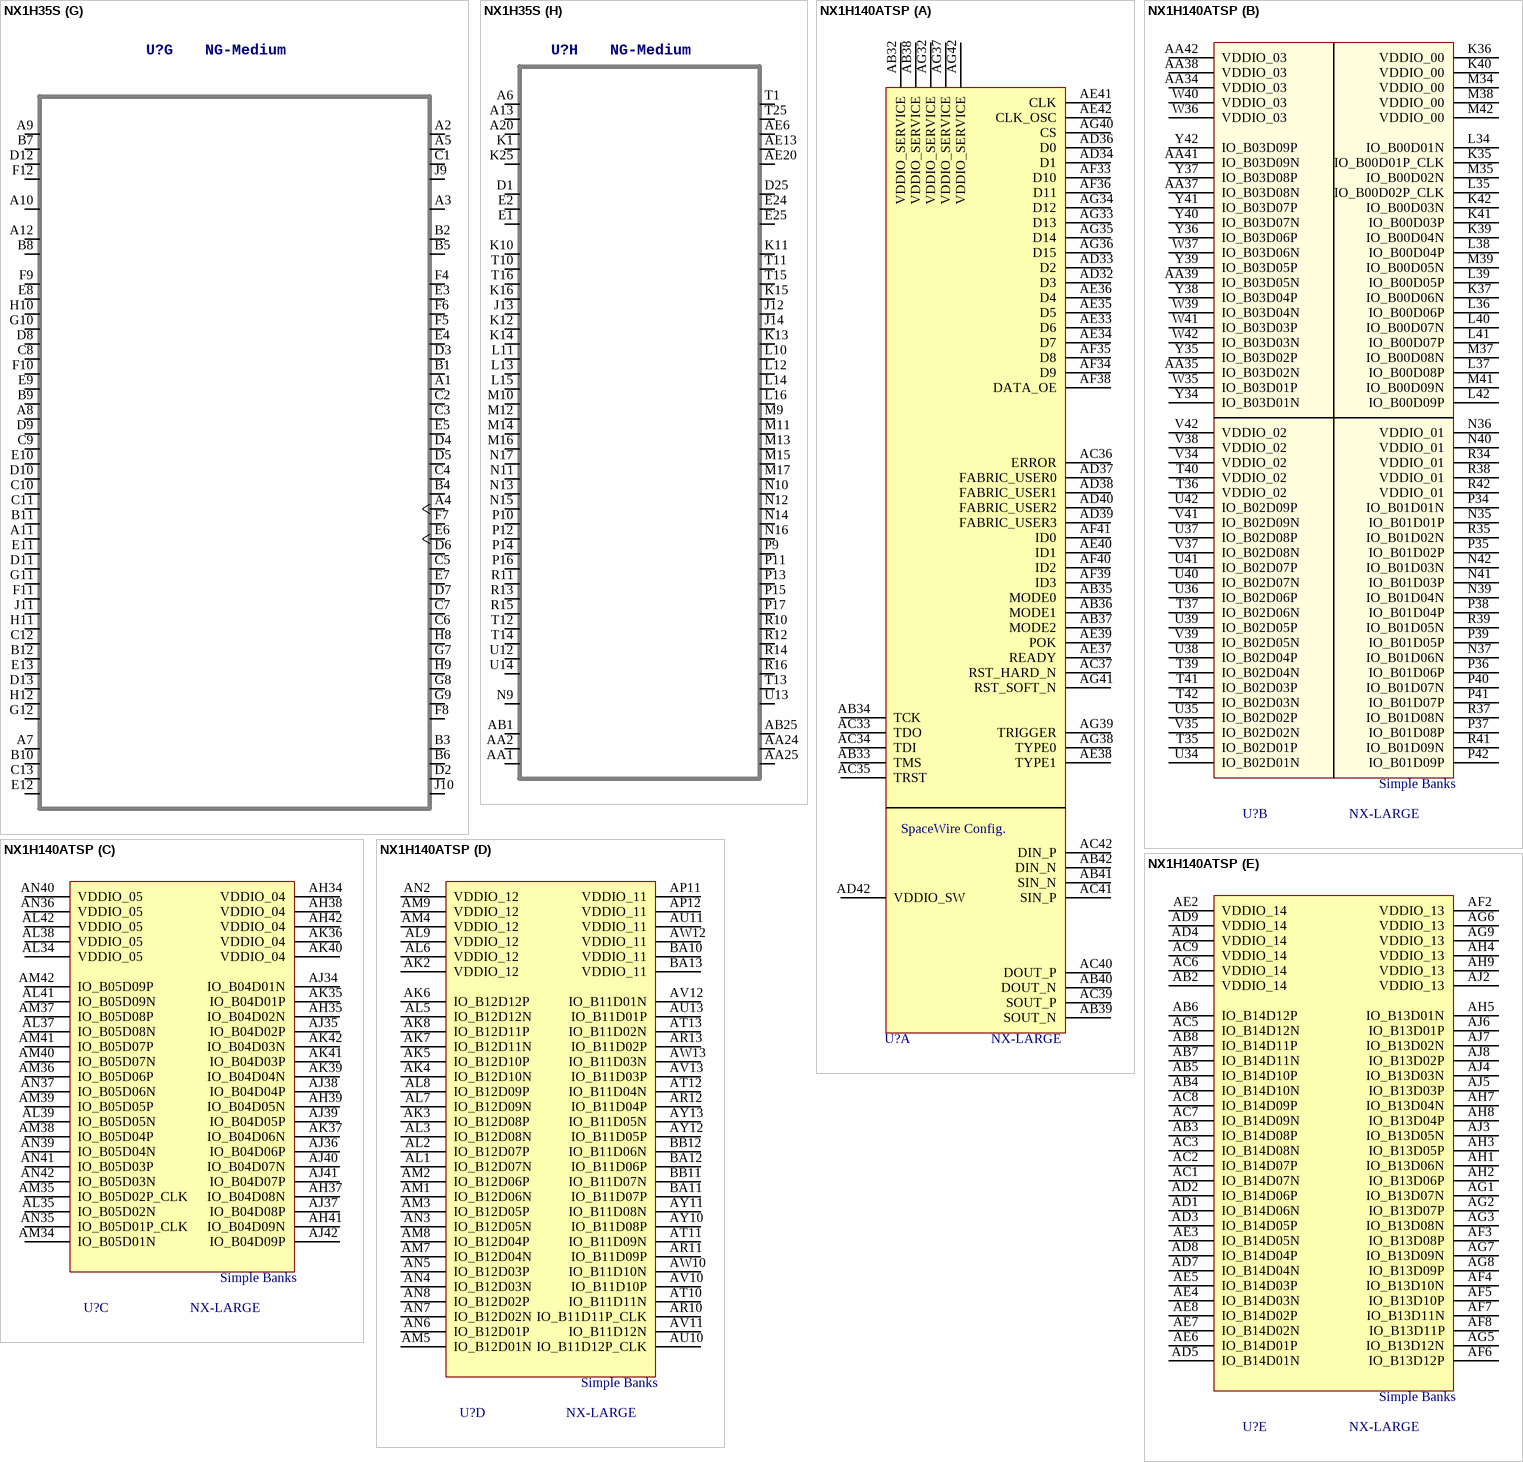
[diagram p17: symbols NX1H35S to NX1H140ATSP]

## NX1H35S
designator U?, comment NG-Medium
footprint CLGA-625
part A pins: K2 GNDLVDS, K3 DOUT_N (out), K4 DOUT_P (out), K5 SOUT_N (out), K6 SOUT_P (out), L1 VDDLVDS, L2 DIN_N, L3 DIN_P, L4 SIN_N, L5 SIN_P, L6 RST_N, L7 MODE1, L8 MODE0, M1 TDI, M2 TMS, M3 CLK, M4 TRST, M5 TCK, M6 GNDIO_SERVICE@1, M7 VDDIO_SERVICE@1, M8 MODE2, N1 VDDIO_SERVICE@2, N2 GNDIO_SERVICE@2, N3 TDO (out), N4 GNDIO_SERVICE@3, N5 VDDIO_SERVICE@3, N6 READY (out), N7 ERROR (out), N8 MODE3, P1 D4, P2 D3, P3 D2, P4 D1, P5 D0, P6 D10, P7 D9, P8 D8, R1 VDDIO_SERVICE@4, R2 CS_N, R3 D7, R4 D6, R5 D5, R6 D13, R7 D12, R8 D11, R17 IO_B6D06N, R18 IO_B6D05N, R19 IO_B6D05P, T2 GNDIO_SERVICE@4, T3 DATA_OE (out), T4 WE_N, T5 D15, T6 D14, T17 IO_B6D06P, T18 IO_B6D07N, T19 IO_B6D04N, T20 VDDIO_6@1, T21 GNDIO_6@1, T22 IO_B6D02N, T23 GNDIO_6@2, T24 VDDIO_6@2, U18 IO_B6D07P, U19 IO_B6D08N, U20 IO_B6D04P, U21 IO_B6D03N, U22 IO_B6D03P, U23 IO_B6D02P, U24 IO_B6D01N, U25 IO_B6D01P, V19 IO_B6D09N, V20 IO_B6D08P, V21 IO_B6D10N, V22 IO_B6D10P, V23 IO_B6D11N, V24 IO_B6D11P, V25 IO_B6D12N, W20 IO_B6D09P, W21 IO_B6D14N, W22 IO_B6D14P_CLK0, W23 IO_B6D13N, W24 IO_B6D13P, W25 IO_B6D12P, Y22 IO_B6D15N, Y23 IO_B6D15P_CLK1, Y24 GNDIO_6@3, Y25 VDDIO_6@3
part B pins: F1 VDDIO_0@1, F2 GNDIO_0@1, F3 IO_B0D08N, G1 IO_B0D05P, G2 IO_B0D05N, G3 IO_B0D08P, G4 IO_B0D09P, G5 IO_B0D09N, G6 IO_B0D11P_CLK1, H1 IO_B0D01P, H2 IO_B0D01N, H3 IO_B0D06P, H4 IO_B0D06N, H5 IO_B0D07P, H6 IO_B0D07N, H7 IO_B0D11N, J1 VDDIO_0@2, J2 GNDIO_0@2, J3 IO_B0D02P, J4 IO_B0D02N, J5 IO_B0D03P, J6 IO_B0D03N, J7 IO_B0D10P_CLK0, J8 IO_B0D10N, K7 IO_B0D04P, K8 IO_B0D04N, K9 GNDIO_0@3, L9 VDDIO_0@3, R9 GNDIO_1@1, T7 IO_B1D11P, T8 IO_B1D11N, T9 VDDIO_1@1, U1 VDDIO_1@2, U2 GNDIO_1@2, U3 IO_B1D09P, U4 IO_B1D09N, U5 IO_B1D08N, U6 IO_B1D10P, U7 IO_B1D10N, U8 IO_B1D05N, V1 IO_B1D06P, V2 IO_B1D06N, V3 IO_B1D07P, V4 IO_B1D07N, V5 IO_B1D08P, V6 IO_B1D04N, V7 IO_B1D05P, W1 IO_B1D02P_CLK1, W2 IO_B1D02N, W3 IO_B1D03P, W4 IO_B1D03N, W5 IO_B1D04P, Y1 VDDIO_1@3, Y2 GNDIO_1@3, Y3 IO_B1D01P_CLK0, Y4 IO_B1D01N
part C pins: AA3 IO_B2D13N_DQS_SWSO, AA4 IO_B2D12N_DQ_SWDO, AA5 IO_B2D04N_DQ_SWSI, AA6 IO_B2D02N_DQ_SWSO, AA7 IO_B2D01N_DQ_SWDO, AA8 IO_B2D07P, AA9 IO_B3D11P_DQ, AA10 IO_B3D10P, AA11 IO_B3D03N_DQS_SWDI, AA12 IO_B3D02P_DQ_SWSO, AB2 GNDIO_2@2, AB3 IO_B2D13P_DQS_SWSO, AB4 IO_B2D06N_CAL, AB5 IO_B2D04P_DQ_SWSI, AB6 IO_B2D02P_DQ_SWSO, AB7 IO_B2D01P_DQ_SWDO, AB8 IO_B3D15N_DQ_SWSI, AB9 IO_B3D14N_DQ_SWDI, AB10 IO_B3D13N_DQS_SWSO, AB11 IO_B3D06N_CAL, AB12 IO_B3D03P_DQS_SWDI, AC1 VDDIO_2@2, AC2 IO_B2D14N_DQ_SWDI, AC3 IO_B2D14P_DQ_SWDI, AC4 IO_B2D06P_DQ, AC5 IO_B2D03N_DQS_SWDI, AC6 IO_B2D03P_DQS_SWDI, AC7 IO_B3D15P_DQ_SWSI, AC8 IO_B3D14P_DQ_SWDI, AC9 IO_B3D13P_DQS_SWSO, AC10 IO_B3D06P_DQ, AC11 IO_B3D05N_DQ, AC12 IO_B3D05P_DQ, AD1 IO_B2D15N_DQ_SWSI, AD2 VTO_2@1, AD3 GNDIO_2@3, AD4 IO_B2D05N_DQ, AD5 VTO_2@2, AD6 GNDIO_2@4, AD7 VDDIO_3@2, AD8 VTO_3@1, AD9 IO_B3D12N_DQ_SWDO, AD10 GNDIO_3@2, AD11 IO_B3D04N_DQ_SWSI, AD12 VTO_3@2, AD13 VDDIO_3@3, AE1 IO_B2D15P_DQ_SWSI, AE2 VDDIO_2@3, AE3 VDDS_2, AE4 IO_B2D05P_DQ, AE5 VDDIO_2@4, AE7 GNDIO_3@3, AE8 IO_B3D12P_DQ_SWDO, AE9 VDDIO_3@4, AE10 VDDS_3, AE11 IO_B3D04P_DQ_SWSI, AE12 GNDIO_3@4, U9 IO_B2D08N, U10 IO_B2D08P_CLK0, U11 IO_B3D08N, V8 IO_B2D09N, V9 VDDIO_2@1, V10 IO_B3D09N, V11 IO_B3D08P, V12 IO_B3D01N_DQ_SWDO, V13 GNDIO_3@1, W6 IO_B2D11N_DQ, W7 IO_B2D10N_DQ, W8 IO_B2D09P_CLK1, W9 GNDIO_2@1, W10 IO_B3D09P, W11 IO_B3D07N, W12 IO_B3D01P_DQ_SWDO, W13 VDDIO_3@1, Y5 IO_B2D12P_DQ_SWDO, Y6 IO_B2D11P_DQ, Y7 IO_B2D10P, Y8 IO_B2D07N, Y9 IO_B3D11N_DQ, Y10 IO_B3D10N_DQ, Y11 IO_B3D07P, Y12 IO_B3D02N_DQ_SWSO
part D pins: AA13 IO_B4D15P_DQ_SWSI, AA14 GNDIO_4@2, AA15 IO_B4D05N_DQ, AA16 IO_B4D06P_DQ, AA17 IO_B4D02N_DQ_SWSO, AA18 IO_B5D13P_DQS_SWSO, AA19 IO_B5D10N_DQ, AA20 IO_B5D10P, AA21 IO_B5D07N, AA22 IO_B5D04N_DQ_SWSI, AA23 IO_B5D03N_DQS_SWDI, AB13 IO_B4D14N_DQ_SWDI, AB14 VDDIO_4@2, AB15 IO_B4D11N_DQ, AB16 IO_B4D05P_DQ, AB17 IO_B4D02P_DQ_SWSO, AB18 IO_B4D01N_DQ_SWDO, AB19 IO_B5D15N_DQ_SWSI, AB20 IO_B5D09N, AB21 IO_B5D07P, AB22 IO_B5D04P_DQ_SWSI, AB23 IO_B5D03P_DQS_SWDI, AB24 GNDIO_5@2, AC13 IO_B4D14P_DQ_SWDI, AC14 IO_B4D13N_DQS_SWSO, AC15 IO_B4D11P_DQ, AC16 IO_B4D04N_DQ_SWSI, AC17 IO_B4D04P_DQ_SWSI, AC18 IO_B4D01P_DQ_SWDO, AC19 IO_B5D15P_DQ_SWSI, AC20 IO_B5D09P_CLK1, AC21 IO_B5D06N_CAL, AC22 IO_B5D06P_DQ, AC23 IO_B5D02P_DQ_SWSO, AC24 IO_B5D02N_DQ_SWSO, AC25 VDDIO_5@2, AD14 IO_B4D13P_DQS_SWSO, AD15 IO_B4D12N_DQ_SWDO, AD16 GNDIO_4@4, AD17 IO_B4D03N_DQS_SWDI, AD18 VTO_4@2, AD19 VDDIO_4@3, AD20 GNDIO_5@3, AD21 VTO_5@1, AD22 IO_B5D05N_DQ, AD23 GNDIO_5@4, AD24 VTO_5@2, AD25 IO_B5D01N_DQ_SWDO, AE14 VTO_4@1, AE15 IO_B4D12P_DQ_SWDO, AE16 VDDS_4, AE17 VDDIO_4@4, AE18 IO_B4D03P_DQS_SWDI, AE19 GNDIO_4@3, AE21 VDDIO_5@3, AE22 IO_B5D05P_DQ, AE23 VDDS_5, AE24 VDDIO_5@4, AE25 IO_B5D01P_DQ_SWDO, U15 IO_B4D08N, U16 IO_B4D08P, U17 GNDIO_5@1, V14 IO_B4D09N, V15 IO_B4D09P, V16 IO_B4D07N, V17 VDDIO_5@1, V18 IO_B5D12N_DQ_SWDO, W14 GNDIO_4@1, W15 IO_B4D10N_DQ, W16 IO_B4D07P, W17 IO_B5D14N_DQ_SWDI, W18 IO_B5D12P_DQ_SWDO, W19 IO_B5D11N_DQ, Y13 IO_B4D15N_DQ_SWSI, Y14 VDDIO_4@1, Y15 IO_B4D10P, Y16 IO_B4D06N_CAL, Y17 IO_B5D14P_DQ_SWDI, Y18 IO_B5D13N_DQS_SWSO, Y19 IO_B5D11P_DQ, Y20 IO_B5D08N, Y21 IO_B5D08P_CLK0
part E pins: F23 IO_B8D01N, F24 GNDIO_8@1, F25 VDDIO_8@1, G21 IO_B8D02N, G22 IO_B8D02P_CLK1, G23 IO_B8D01P_CLK0, G24 IO_B8D03N, G25 IO_B8D03P, H19 IO_B8D04N, H20 IO_B8D04P, H21 IO_B8D07N, H22 IO_B8D07P, H23 IO_B8D08N, H24 IO_B8D08P, H25 IO_B8D11N, J16 IO_B8D05N, J17 IO_B8D05P, J18 IO_B8D06N, J19 IO_B8D06P, J20 IO_B8D09N, J21 IO_B8D09P, J22 IO_B8D10N, J23 IO_B8D10P, J24 IO_B8D11P, J25 VDDIO_8@2, K17 GNDIO_8@2, K18 VDDIO_8@3, K19 IO_B8D14N, K20 IO_B8D13N, K21 IO_B8D13P, K22 IO_B8D12N, K23 IO_B8D12P, K24 GNDIO_8@3, L17 IO_B8D15N, L18 IO_B8D15P, L19 IO_B8D14P, L20 IO_B7D01N, L21 IO_B7D01P, L22 IO_B7D02N, L23 IO_B7D02P, L24 GNDIO_7@1, L25 VDDIO_7@1, M18 IO_B7D06N, M19 IO_B7D06P, M20 IO_B7D05N, M21 IO_B7D05P, M22 IO_B7D04N, M23 IO_B7D04P, M24 IO_B7D03N, M25 IO_B7D03P, N18 IO_B7D10N, N19 IO_B7D10P, N20 IO_B7D09N, N21 IO_B7D09P, N22 IO_B7D08N, N23 IO_B7D08P, N24 IO_B7D07N, N25 IO_B7D07P, P18 IO_B7D14N, P19 IO_B7D14P, P20 IO_B7D13N, P21 IO_B7D13P, P22 IO_B7D12N, P23 IO_B7D12P, P24 IO_B7D11N, P25 IO_B7D11P, R20 IO_B7D15N, R21 IO_B7D15P, R22 VDDIO_7@2, R23 GNDIO_7@2, R24 GNDIO_7@3, R25 VDDIO_7@3
part F pins: A14 IO_B10D03P_DQS_SWDI, A15 VDDIO_10@1, A16 VDDS_10, A17 IO_B10D12N_DQ_SWDO, A18 IO_B10D12P_DQ_SWDO, A19 GNDIO_10@1, A21 VDDIO_9@1, A22 IO_B9D06P_DQ, A23 VDDS_9, A24 VDDIO_9@2, A25 IO_B9D12P_DQ_SWDO, B13 VDDIO_10@2, B14 VTO_10@1, B15 IO_B10D03N_DQS_SWDI, B16 GNDIO_10@2, B17 IO_B10D07P, B18 VTO_10@2, B19 VDDIO_10@3, B20 GNDIO_9@1, B21 VTO_9@1, B22 IO_B9D06N_CAL, B23 GNDIO_9@2, B24 VTO_9@2, B25 IO_B9D12N_DQ_SWDO, C14 GNDIO_10@3, C15 IO_B10D02P_DQ_SWSO, C16 IO_B10D04P_DQ_SWSI, C17 IO_B10D07N, C18 IO_B10D13P_DQS_SWSO, C19 IO_B9D01N_DQ_SWDO, C20 IO_B9D01P_DQ_SWDO, C21 IO_B9D07P, C22 IO_B9D08P_CLK0, C23 IO_B9D11N_DQ, C24 IO_B9D11P_DQ, C25 VDDIO_9@3, D14 IO_B10D02N_DQ_SWSO, D15 IO_B10D04N_DQ_SWSI, D16 IO_B10D08N, D17 IO_B10D08P, D18 IO_B10D13N_DQS_SWSO, D19 IO_B9D02P_DQ_SWSO, D20 IO_B9D03P_DQS_SWDI, D21 IO_B9D07N, D22 IO_B9D08N, D23 IO_B9D13P_DQS_SWSO, D24 GNDIO_9@3, E14 IO_B10D01P_DQ_SWDO, E15 IO_B10D05P_DQ, E16 IO_B10D09P, E17 IO_B10D14P_DQ_SWDI, E18 IO_B9D02N_DQ_SWSO, E19 IO_B9D03N_DQS_SWDI, E20 IO_B9D04P_DQ_SWSI, E21 IO_B9D09P_CLK1, E22 IO_B9D13N_DQS_SWSO, E23 IO_B9D15P_DQ_SWSI, F13 IO_B10D01N_DQ_SWDO, F14 IO_B10D05N_DQ, F15 IO_B10D09N, F16 IO_B10D10P, F17 IO_B10D14N_DQ_SWDI, F18 GNDIO_9@4, F19 IO_B9D04N_DQ_SWSI, F20 IO_B9D09N, F21 IO_B9D14P_DQ_SWDI, F22 IO_B9D15N_DQ_SWSI, G13 GNDIO_10@4, G14 IO_B10D06P_DQ, G15 IO_B10D10N_DQ, G16 IO_B10D15P_DQ_SWSI, G17 VDDIO_9@4, G18 IO_B9D05P_DQ, G19 IO_B9D10P, G20 IO_B9D14N_DQ_SWDI, H13 VDDIO_10@4, H14 IO_B10D06N_CAL, H15 IO_B10D11P_DQ, H16 IO_B10D15N_DQ_SWSI, H17 IO_B9D05N_DQ, H18 IO_B9D10N_DQ, J15 IO_B10D11N_DQ
part G pins: A1 IO_B12D04P_DQ_SWSI, A2 VDDIO_12@1, A3 VDDS_12, A4 IO_B12D08P_CLK0, A5 VDDIO_12@2, A7 GNDIO_11@1, A8 IO_B11D05P_DQ, A9 VDDIO_11@1, A10 VDDS_11, A11 IO_B11D09P, A12 VTO_11@1, B1 IO_B12D04N_DQ_SWSI, B2 VTO_12@1, B3 GNDIO_12@1, B4 IO_B12D08N, B5 VTO_12@2, B6 GNDIO_12@2, B7 VDDIO_11@2, B8 VTO_11@2, B9 IO_B11D05N_DQ, B10 GNDIO_11@2, B11 IO_B11D09N, B12 IO_B11D13P_DQS_SWSO, C1 VDDIO_12@3, C2 IO_B12D05N_DQ, C3 IO_B12D05P_DQ, C4 IO_B12D07P, C5 IO_B12D10P, C6 IO_B12D12P_DQ_SWDO, C7 IO_B12D12N_DQ_SWDO, C8 IO_B11D03P_DQS_SWDI, C9 IO_B11D06P_DQ, C10 IO_B11D08N, C11 IO_B11D08P, C12 IO_B11D13N_DQS_SWSO, C13 GNDIO_11@3, D2 GNDIO_12@3, D3 IO_B12D03P_DQS_SWDI, D4 IO_B12D06P_DQ, D5 IO_B12D07N, D6 IO_B12D10N_DQ, D7 IO_B12D11P_DQ, D8 IO_B11D03N_DQS_SWDI, D9 IO_B11D06N_CAL, D10 IO_B11D07P, D11 IO_B11D10P, D12 VDDIO_11@3, D13 IO_B11D14P_DQ_SWDI, E3 IO_B12D01P_DQ_SWDO, E4 IO_B12D03N_DQS_SWDI, E5 IO_B12D06N_CAL, E6 IO_B12D09P_CLK1, E7 IO_B12D11N_DQ, E8 IO_B11D01P_DQ_SWDO, E9 IO_B11D04P_DQ_SWSI, E10 IO_B11D07N, E11 IO_B11D10N_DQ, E12 GNDIO_11@4, E13 IO_B11D14N_DQ_SWDI, F4 IO_B12D01N_DQ_SWDO, F5 IO_B12D02P_DQ_SWSO, F6 IO_B12D02N_DQ_SWSO, F7 IO_B12D09N, F8 IO_B12D15P_DQ_SWSI, F9 IO_B11D01N_DQ_SWDO, F10 IO_B11D04N_DQ_SWSI, F11 IO_B11D11P_DQ, F12 VDDIO_11@4, G7 IO_B12D13P_DQS_SWSO, G8 IO_B12D14P_DQ_SWDI, G9 IO_B12D15N_DQ_SWSI, G10 IO_B11D02P_DQ_SWSO, G11 IO_B11D11N_DQ, G12 IO_B11D15P_DQ_SWSI, H8 IO_B12D13N_DQS_SWSO, H9 IO_B12D14N_DQ_SWDI, H10 IO_B11D02N_DQ_SWSO, H11 IO_B11D12P_DQ_SWDO, H12 IO_B11D15N_DQ_SWSI, J9 VDDIO_12@4, J10 GNDIO_12@4, J11 IO_B11D12N_DQ_SWDO
part H pins: A6 VDD2V5A@1, A13 VDD2V5A@2, A20 VDD2V5A@3, AA1 CG1_AGNDPLL, AA2 CG1_ASUBPLL, AA24 CG2_ASUBPLL, AA25 CG2_AGNDPLL, AB1 CG1_AVDDPLL, AB25 CG2_AVDDPLL, AE6 VDD2V5A@8, AE13 VDD2V5A@9, AE20 VDD2V5A@10, D1 CG0_AVDDPLL, D25 CG3_AVDDPLL, E1 CG0_AGNDPLL, E2 CG0_ASUBPLL, E24 CG3_ASUBPLL, E25 CG3_AGNDPLL, J12 GNDCORE@1, J13 VDDCORE@1, J14 GNDCORE@2, K1 VDD2V5A@4, K10 CG0_DVDDPLL, K11 GNDCORE@28, K12 VDDCORE@2, K13 GNDCORE@3, K14 VDDCORE@3, K15 GNDCORE@31, K16 CG3_DVDDPLL, K25 VDD2V5A@5, L10 GNDCORE@4, L11 VDDCORE@4, L12 GNDCORE@5, L13 VDDCORE@5, L14 GNDCORE@6, L15 VDDCORE@6, L16 GNDCORE@7, M9 GNDCORE@8, M10 VDDCORE@7, M11 GNDCORE@9, M12 VDDCORE@8, M13 GNDCORE@10, M14 VDDCORE@9, M15 GNDCORE@11, M16 VDDCORE@10, M17 GNDCORE@12, N9 VDDSENSE, N10 GNDCORE@13, N11 VDDCORE@12, N12 GNDCORE@14, N13 VDDCORE@13, N14 GNDCORE@15, N15 VDDCORE@14, N16 GNDCORE@16, N17 VDDCORE@11, P9 GNDCORE@17, P10 VDDCORE@15, P11 GNDCORE@18, P12 VDDCORE@16, P13 GNDCORE@19, P14 VDDCORE@17, P15 GNDCORE@20, P16 VDDCORE@18, P17 GNDCORE@21, R10 GNDCORE@22, R11 VDDCORE@19, R12 GNDCORE@23, R13 VDDCORE@20, R14 GNDCORE@24, R15 VDDCORE@21, R16 GNDCORE@25, T1 VDD2V5A@6, T10 CG1_DVDDPLL, T11 GNDCORE@29, T12 VDDCORE@22, T13 GNDCORE@26, T14 VDDCORE@23, T15 GNDCORE@30, T16 CG2_DVDDPLL, T25 VDD2V5A@7, U12 VDDCORE@24, U13 GNDCORE@27, U14 VDDCORE@25

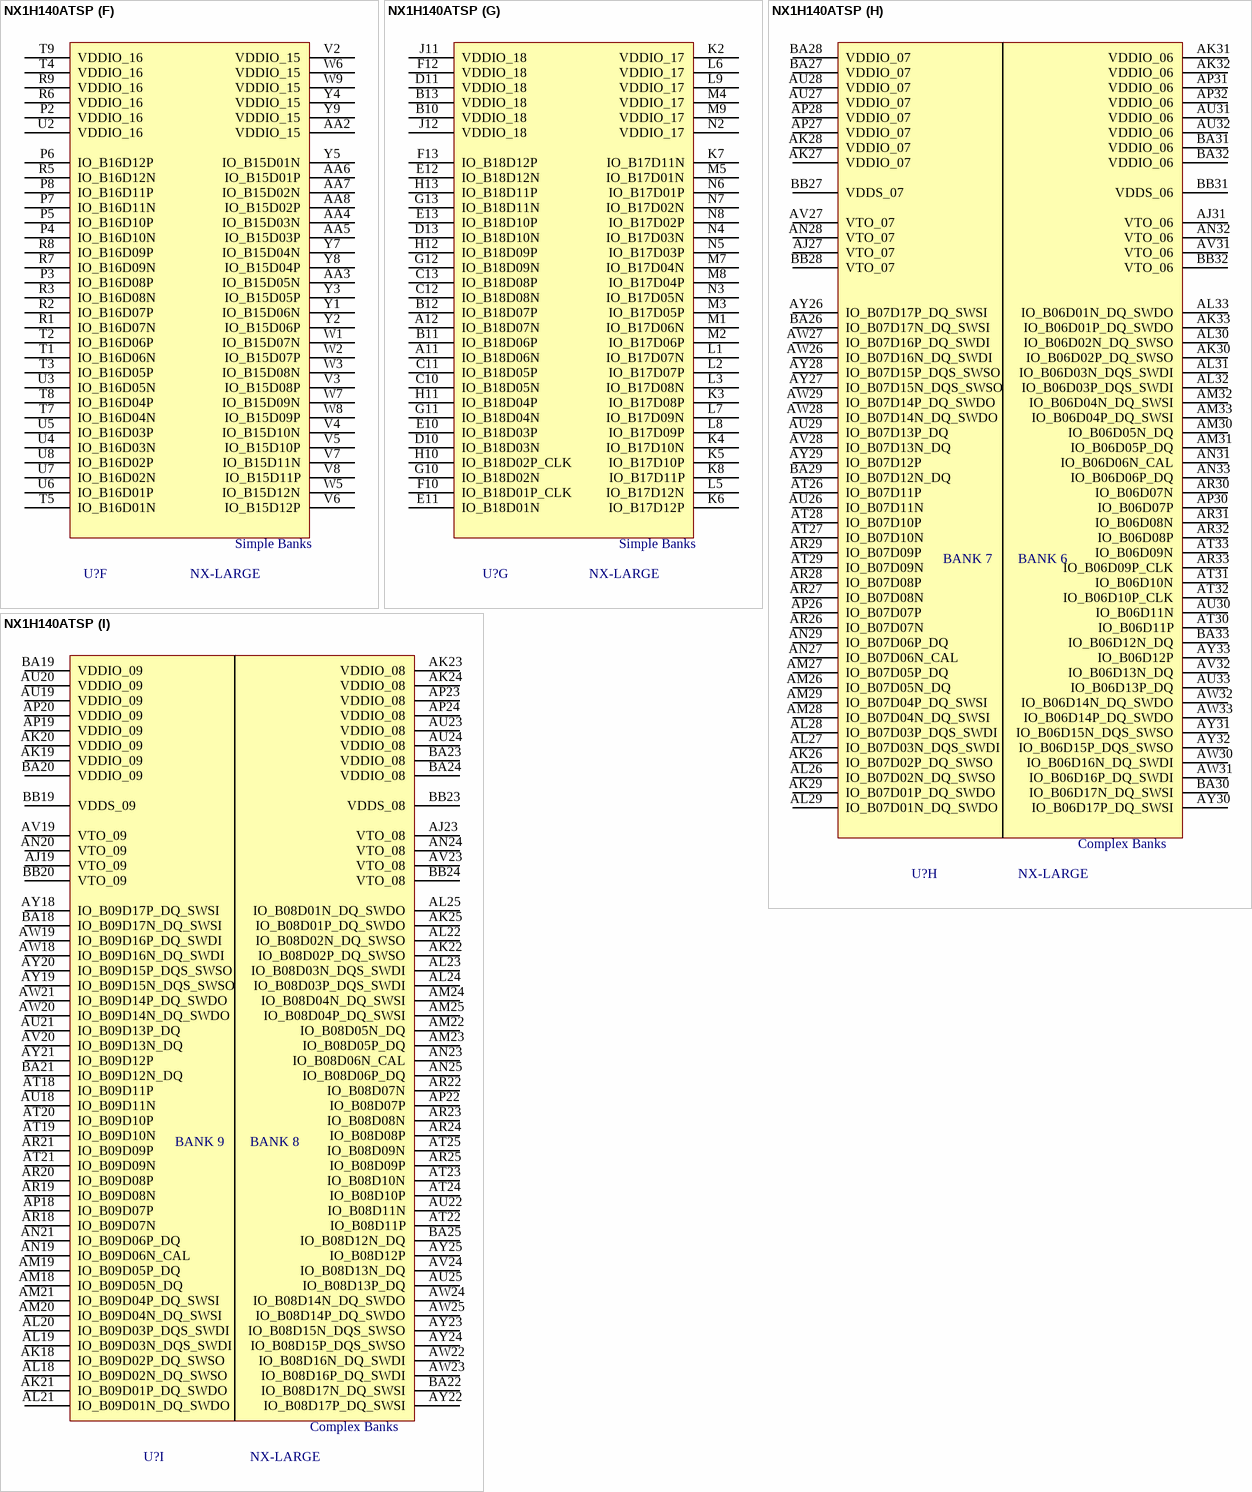
[diagram p18: symbol NX1H140ATSP]

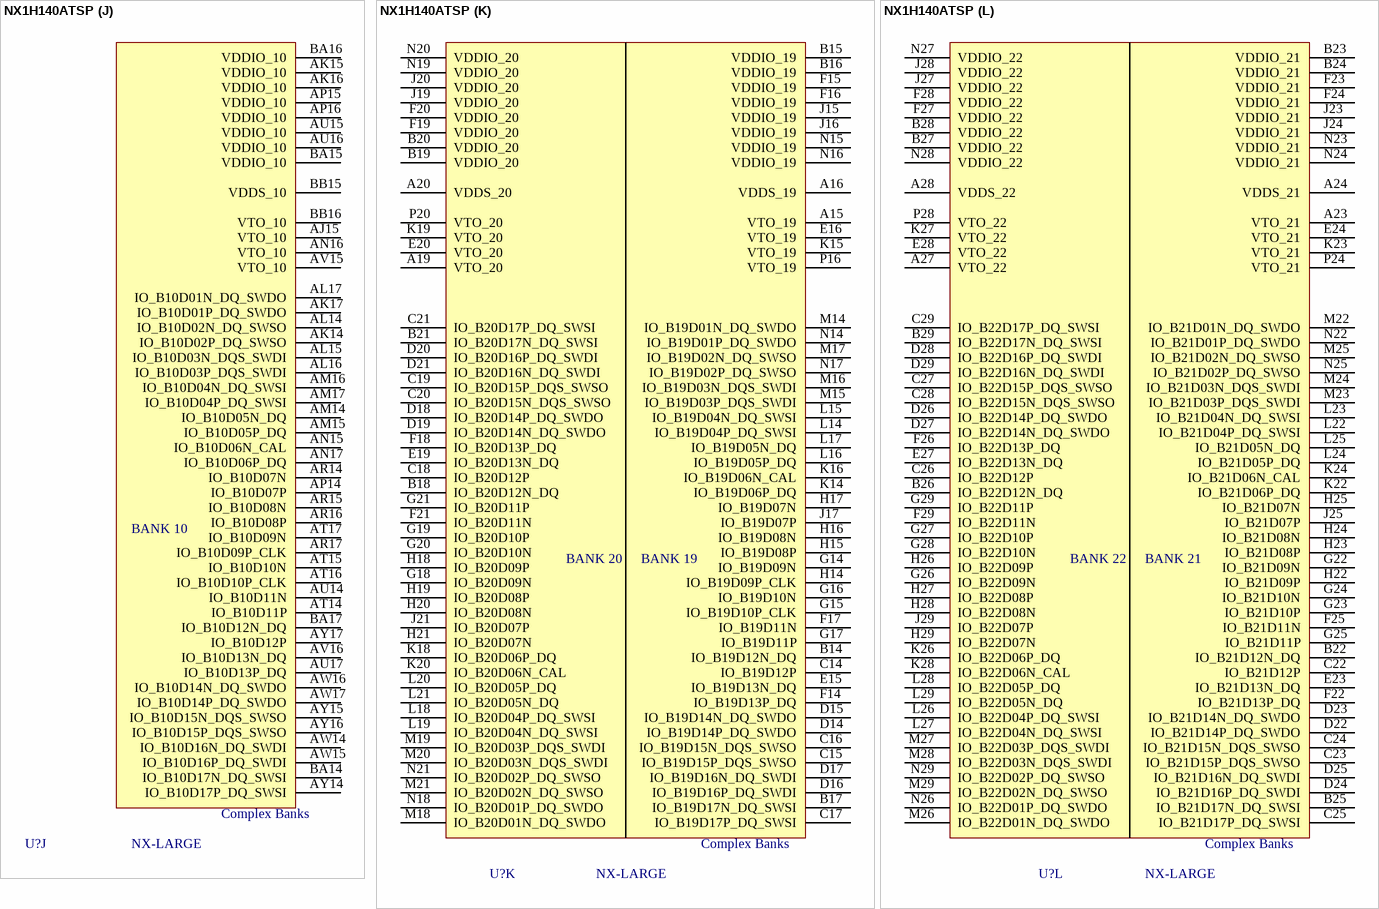
[diagram p19: symbol NX1H140ATSP]

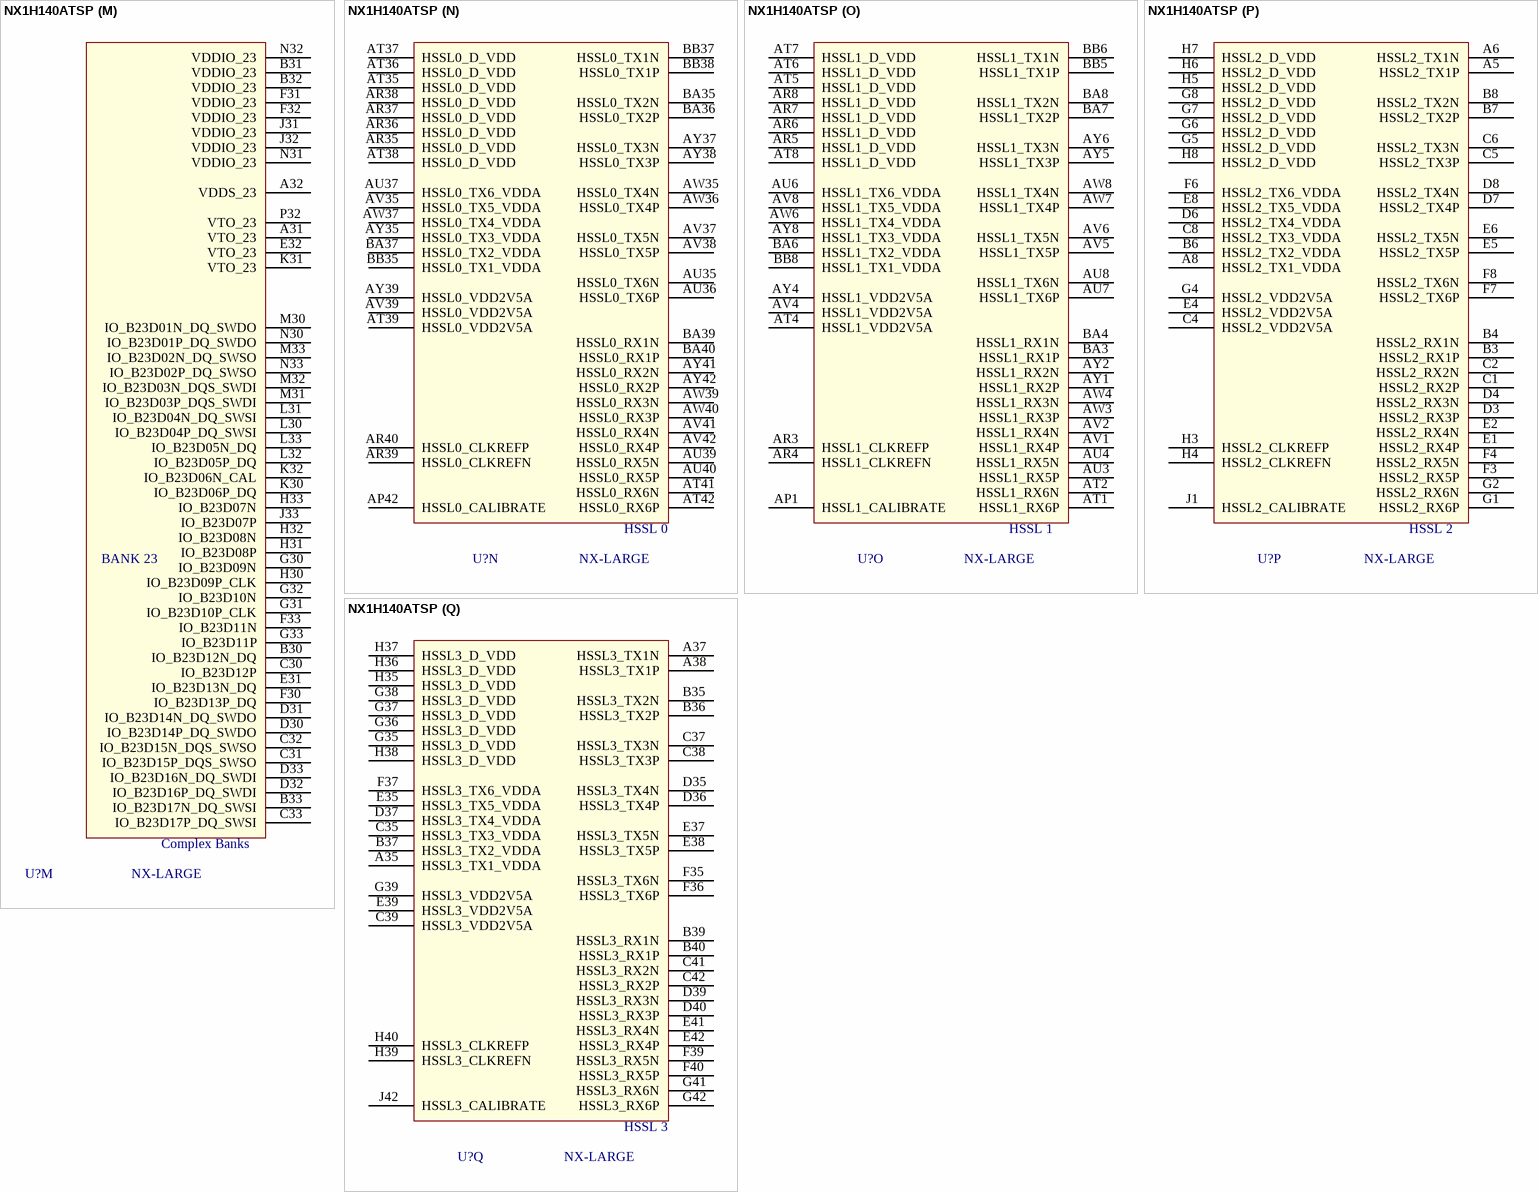
[diagram p20: symbol NX1H140ATSP]

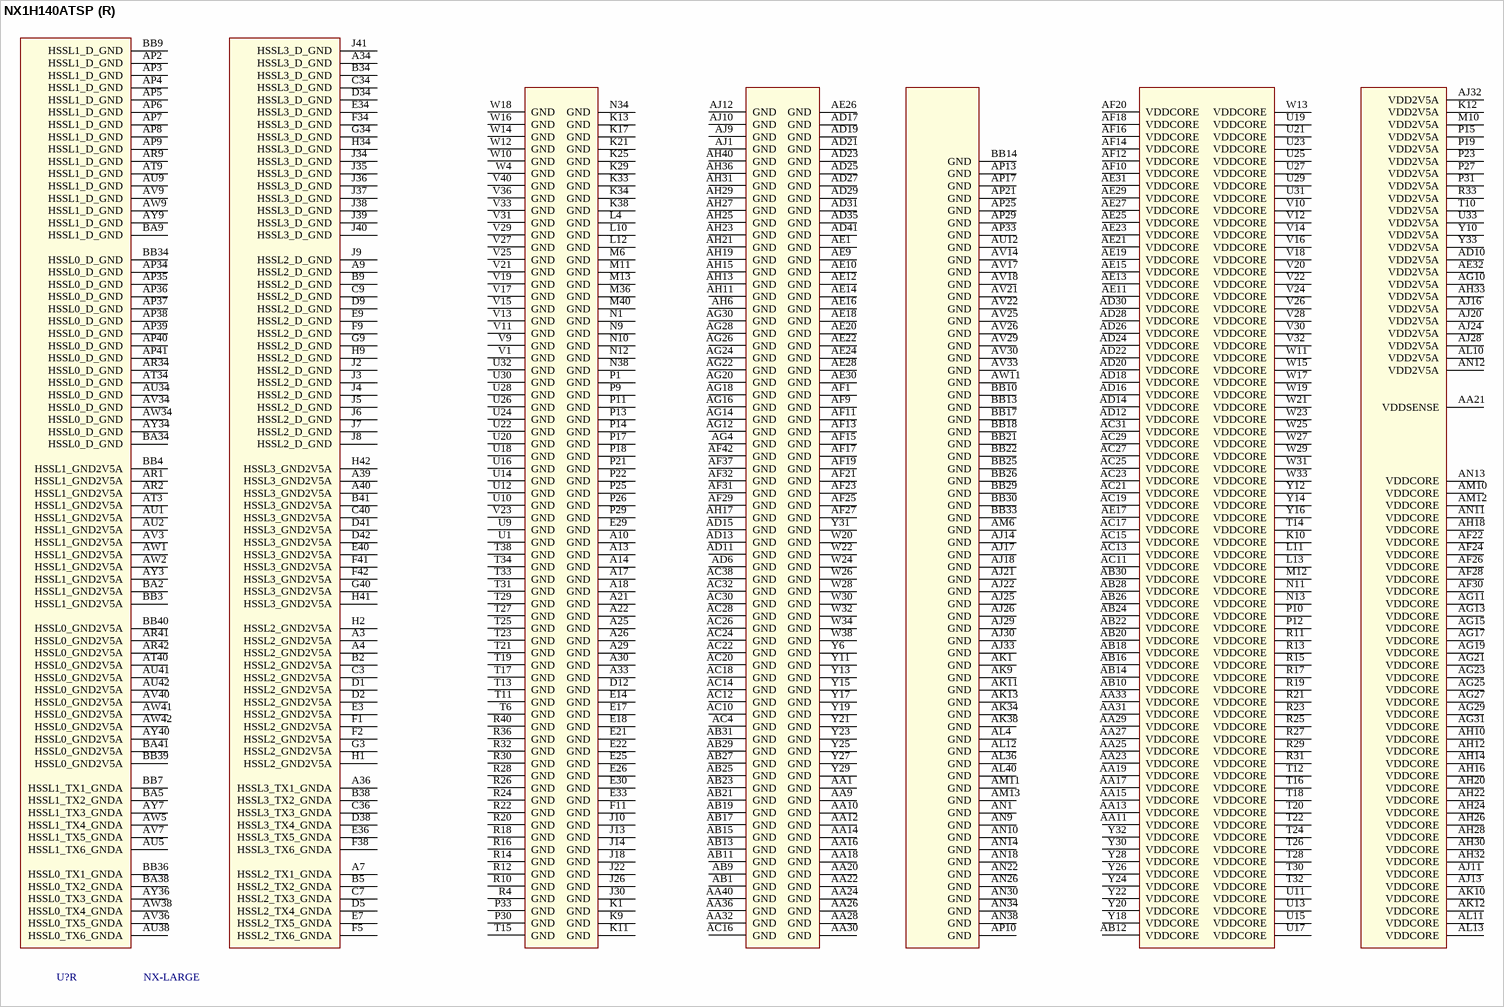
[diagram p21: symbol NX1H140ATSP]